# Altium schematic symbol library MyAltiumLibrary.SchLib: 375 symbols (part 2 of 2)
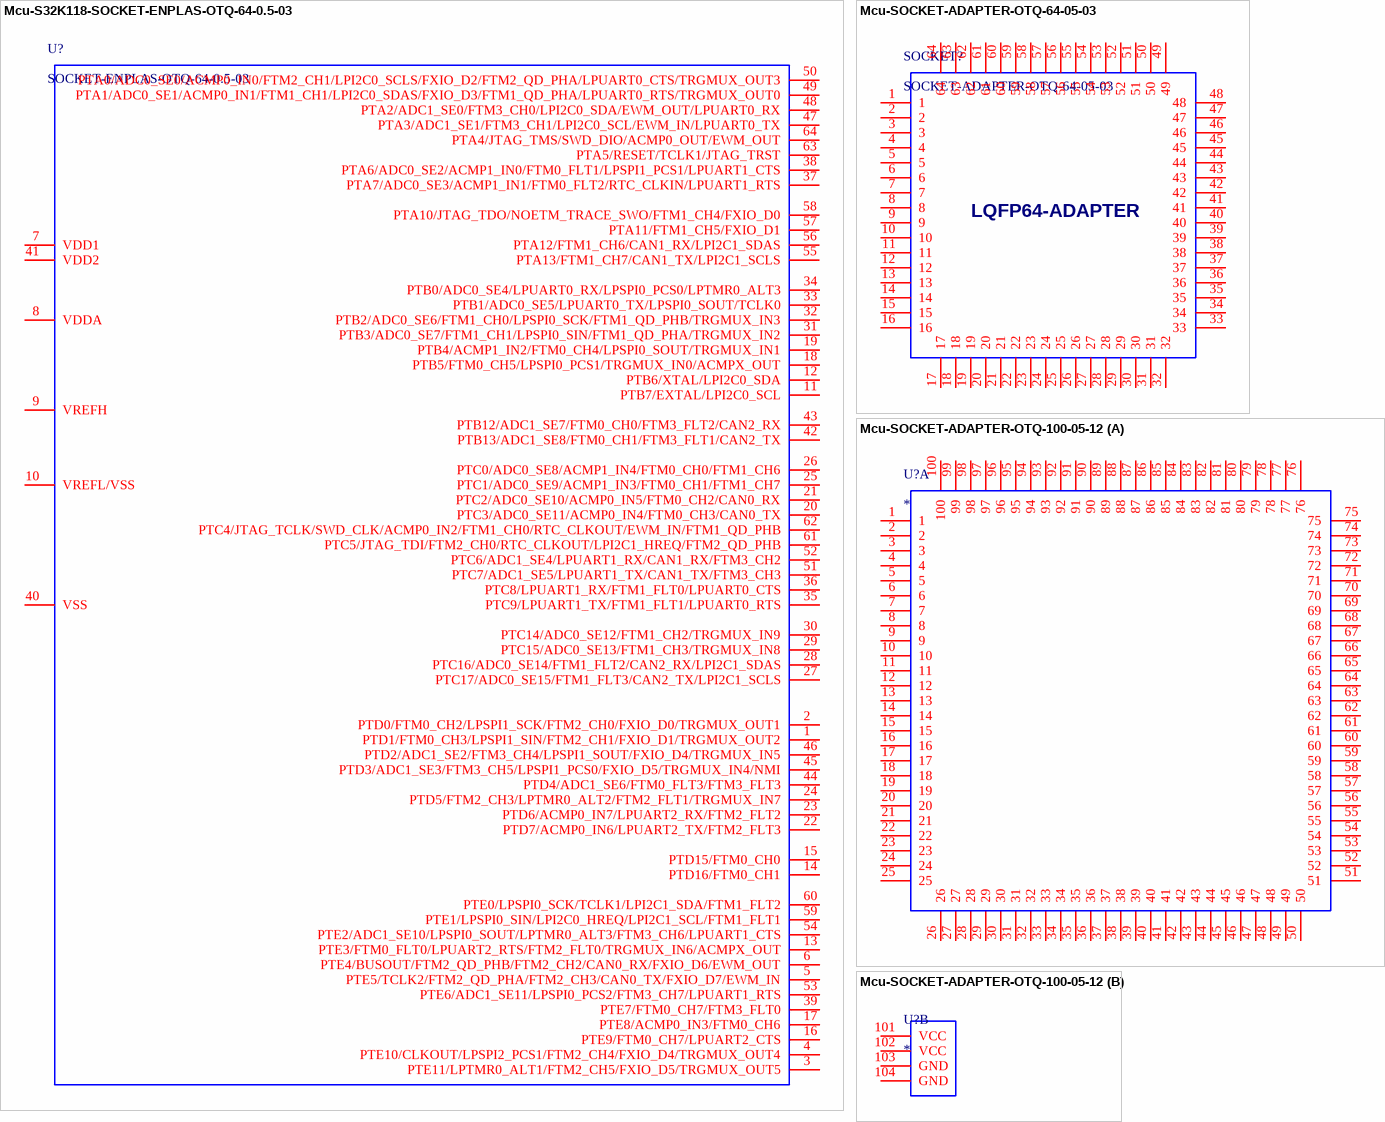
[diagram p18: symbols Mcu-S32K118-SOCKET-ENPLAS-OTQ-64-0.5-03 to Mcu-SOCKET-ADAPTER-OTQ-100-05-12]

## Mcu-S32K118-SOCKET-ENPLAS-OTQ-64-0.5-03
designator U?, comment SOCKET-ENPLAS-OTQ-64-0.5-03
footprint SOCKET-ADAPTER-OTQ-64-05-03
pins: 1 PTD1/FTM0_CH3/LPSPI1_SIN/FTM2_CH1/FXIO_D1/TRGMUX_OUT2, 2 PTD0/FTM0_CH2/LPSPI1_SCK/FTM2_CH0/FXIO_D0/TRGMUX_OUT1, 3 PTE11/LPTMR0_ALT1/FTM2_CH5/FXIO_D5/TRGMUX_OUT5, 4 PTE10/CLKOUT/LPSPI2_PCS1/FTM2_CH4/FXIO_D4/TRGMUX_OUT4, 5 PTE5/TCLK2/FTM2_QD_PHA/FTM2_CH3/CAN0_TX/FXIO_D7/EWM_IN, 6 PTE4/BUSOUT/FTM2_QD_PHB/FTM2_CH2/CAN0_RX/FXIO_D6/EWM_OUT, 7 VDD1, 8 VDDA, 9 VREFH, 10 VREFL/VSS, 11 PTB7/EXTAL/LPI2C0_SCL, 12 PTB6/XTAL/LPI2C0_SDA, 13 PTE3/FTM0_FLT0/LPUART2_RTS/FTM2_FLT0/TRGMUX_IN6/ACMPX_OUT, 14 PTD16/FTM0_CH1, 15 PTD15/FTM0_CH0, 16 PTE9/FTM0_CH7/LPUART2_CTS, 17 PTE8/ACMP0_IN3/FTM0_CH6, 18 PTB5/FTM0_CH5/LPSPI0_PCS1/TRGMUX_IN0/ACMPX_OUT, 19 PTB4/ACMP1_IN2/FTM0_CH4/LPSPI0_SOUT/TRGMUX_IN1, 20 PTC3/ADC0_SE11/ACMP0_IN4/FTM0_CH3/CAN0_TX, 21 PTC2/ADC0_SE10/ACMP0_IN5/FTM0_CH2/CAN0_RX, 22 PTD7/ACMP0_IN6/LPUART2_TX/FTM2_FLT3, 23 PTD6/ACMP0_IN7/LPUART2_RX/FTM2_FLT2, 24 PTD5/FTM2_CH3/LPTMR0_ALT2/FTM2_FLT1/TRGMUX_IN7, 25 PTC1/ADC0_SE9/ACMP1_IN3/FTM0_CH1/FTM1_CH7, 26 PTC0/ADC0_SE8/ACMP1_IN4/FTM0_CH0/FTM1_CH6, 27 PTC17/ADC0_SE15/FTM1_FLT3/CAN2_TX/LPI2C1_SCLS, 28 PTC16/ADC0_SE14/FTM1_FLT2/CAN2_RX/LPI2C1_SDAS, 29 PTC15/ADC0_SE13/FTM1_CH3/TRGMUX_IN8, 30 PTC14/ADC0_SE12/FTM1_CH2/TRGMUX_IN9, 31 PTB3/ADC0_SE7/FTM1_CH1/LPSPI0_SIN/FTM1_QD_PHA/TRGMUX_IN2, 32 PTB2/ADC0_SE6/FTM1_CH0/LPSPI0_SCK/FTM1_QD_PHB/TRGMUX_IN3, 33 PTB1/ADC0_SE5/LPUART0_TX/LPSPI0_SOUT/TCLK0, 34 PTB0/ADC0_SE4/LPUART0_RX/LPSPI0_PCS0/LPTMR0_ALT3, 35 PTC9/LPUART1_TX/FTM1_FLT1/LPUART0_RTS, 36 PTC8/LPUART1_RX/FTM1_FLT0/LPUART0_CTS, 37 PTA7/ADC0_SE3/ACMP1_IN1/FTM0_FLT2/RTC_CLKIN/LPUART1_RTS, 38 PTA6/ADC0_SE2/ACMP1_IN0/FTM0_FLT1/LPSPI1_PCS1/LPUART1_CTS, 39 PTE7/FTM0_CH7/FTM3_FLT0, 40 VSS, 41 VDD2, 42 PTB13/ADC1_SE8/FTM0_CH1/FTM3_FLT1/CAN2_TX, 43 PTB12/ADC1_SE7/FTM0_CH0/FTM3_FLT2/CAN2_RX, 44 PTD4/ADC1_SE6/FTM0_FLT3/FTM3_FLT3, 45 PTD3/ADC1_SE3/FTM3_CH5/LPSPI1_PCS0/FXIO_D5/TRGMUX_IN4/NMI, 46 PTD2/ADC1_SE2/FTM3_CH4/LPSPI1_SOUT/FXIO_D4/TRGMUX_IN5, 47 PTA3/ADC1_SE1/FTM3_CH1/LPI2C0_SCL/EWM_IN/LPUART0_TX, 48 PTA2/ADC1_SE0/FTM3_CH0/LPI2C0_SDA/EWM_OUT/LPUART0_RX, 49 PTA1/ADC0_SE1/ACMP0_IN1/FTM1_CH1/LPI2C0_SDAS/FXIO_D3/FTM1_QD_PHA/LPUART0_RTS/TRGMUX_OUT0, 50 PTA0/ADC0_SE0/ACMP0_IN0/FTM2_CH1/LPI2C0_SCLS/FXIO_D2/FTM2_QD_PHA/LPUART0_CTS/TRGMUX_OUT3, 51 PTC7/ADC1_SE5/LPUART1_TX/CAN1_TX/FTM3_CH3, 52 PTC6/ADC1_SE4/LPUART1_RX/CAN1_RX/FTM3_CH2, 53 PTE6/ADC1_SE11/LPSPI0_PCS2/FTM3_CH7/LPUART1_RTS, 54 PTE2/ADC1_SE10/LPSPI0_SOUT/LPTMR0_ALT3/FTM3_CH6/LPUART1_CTS, 55 PTA13/FTM1_CH7/CAN1_TX/LPI2C1_SCLS, 56 PTA12/FTM1_CH6/CAN1_RX/LPI2C1_SDAS, 57 PTA11/FTM1_CH5/FXIO_D1, 58 PTA10/JTAG_TDO/NOETM_TRACE_SWO/FTM1_CH4/FXIO_D0, 59 PTE1/LPSPI0_SIN/LPI2C0_HREQ/LPI2C1_SCL/FTM1_FLT1, 60 PTE0/LPSPI0_SCK/TCLK1/LPI2C1_SDA/FTM1_FLT2, 61 PTC5/JTAG_TDI/FTM2_CH0/RTC_CLKOUT/LPI2C1_HREQ/FTM2_QD_PHB, 62 PTC4/JTAG_TCLK/SWD_CLK/ACMP0_IN2/FTM1_CH0/RTC_CLKOUT/EWM_IN/FTM1_QD_PHB, 63 PTA5/RESET/TCLK1/JTAG_TRST, 64 PTA4/JTAG_TMS/SWD_DIO/ACMP0_OUT/EWM_OUT

## Mcu-SOCKET-ADAPTER-OTQ-64-05-03
designator SOCKET?, comment SOCKET-ADAPTER-OTQ-64-05-03
footprint SOCKET-ADAPTER-OTQ-64-05-03
pins: 1, 2, 3, 4, 5, 6, 7, 8, 9, 10, 11, 12, 13, 14, 15, 16, 17, 18, 19, 20, 21, 22, 23, 24, 25, 26, 27, 28, 29, 30, 31, 32, 33, 34, 35, 36, 37, 38, 39, 40, 41, 42, 43, 44, 45, 46, 47, 48, 49, 50, 51, 52, 53, 54, 55, 56, 57, 58, 59, 60, 61, 62, 63, 64
text: LQFP64-ADAPTER

## Mcu-SOCKET-ADAPTER-OTQ-100-05-12
designator U?
footprint SOCKET-ADAPTER-OTQ-100-05-12
part A pins: 1, 2, 3, 4, 5, 6, 7, 8, 9, 10, 11, 12, 13, 14, 15, 16, 17, 18, 19, 20, 21, 22, 23, 24, 25, 26, 27, 28, 29, 30, 31, 32, 33, 34, 35, 36, 37, 38, 39, 40, 41, 42, 43, 44, 45, 46, 47, 48, 49, 50, 51, 52, 53, 54, 55, 56, 57, 58, 59, 60, 61, 62, 63, 64, 65, 66, 67, 68, 69, 70, 71, 72, 73, 74, 75, 76, 77, 78, 79, 80, 81, 82, 83, 84, 85, 86, 87, 88, 89, 90, 91, 92, 93, 94, 95, 96, 97, 98, 99, 100
part B pins: 101 VCC, 102 VCC, 103 GND, 104 GND

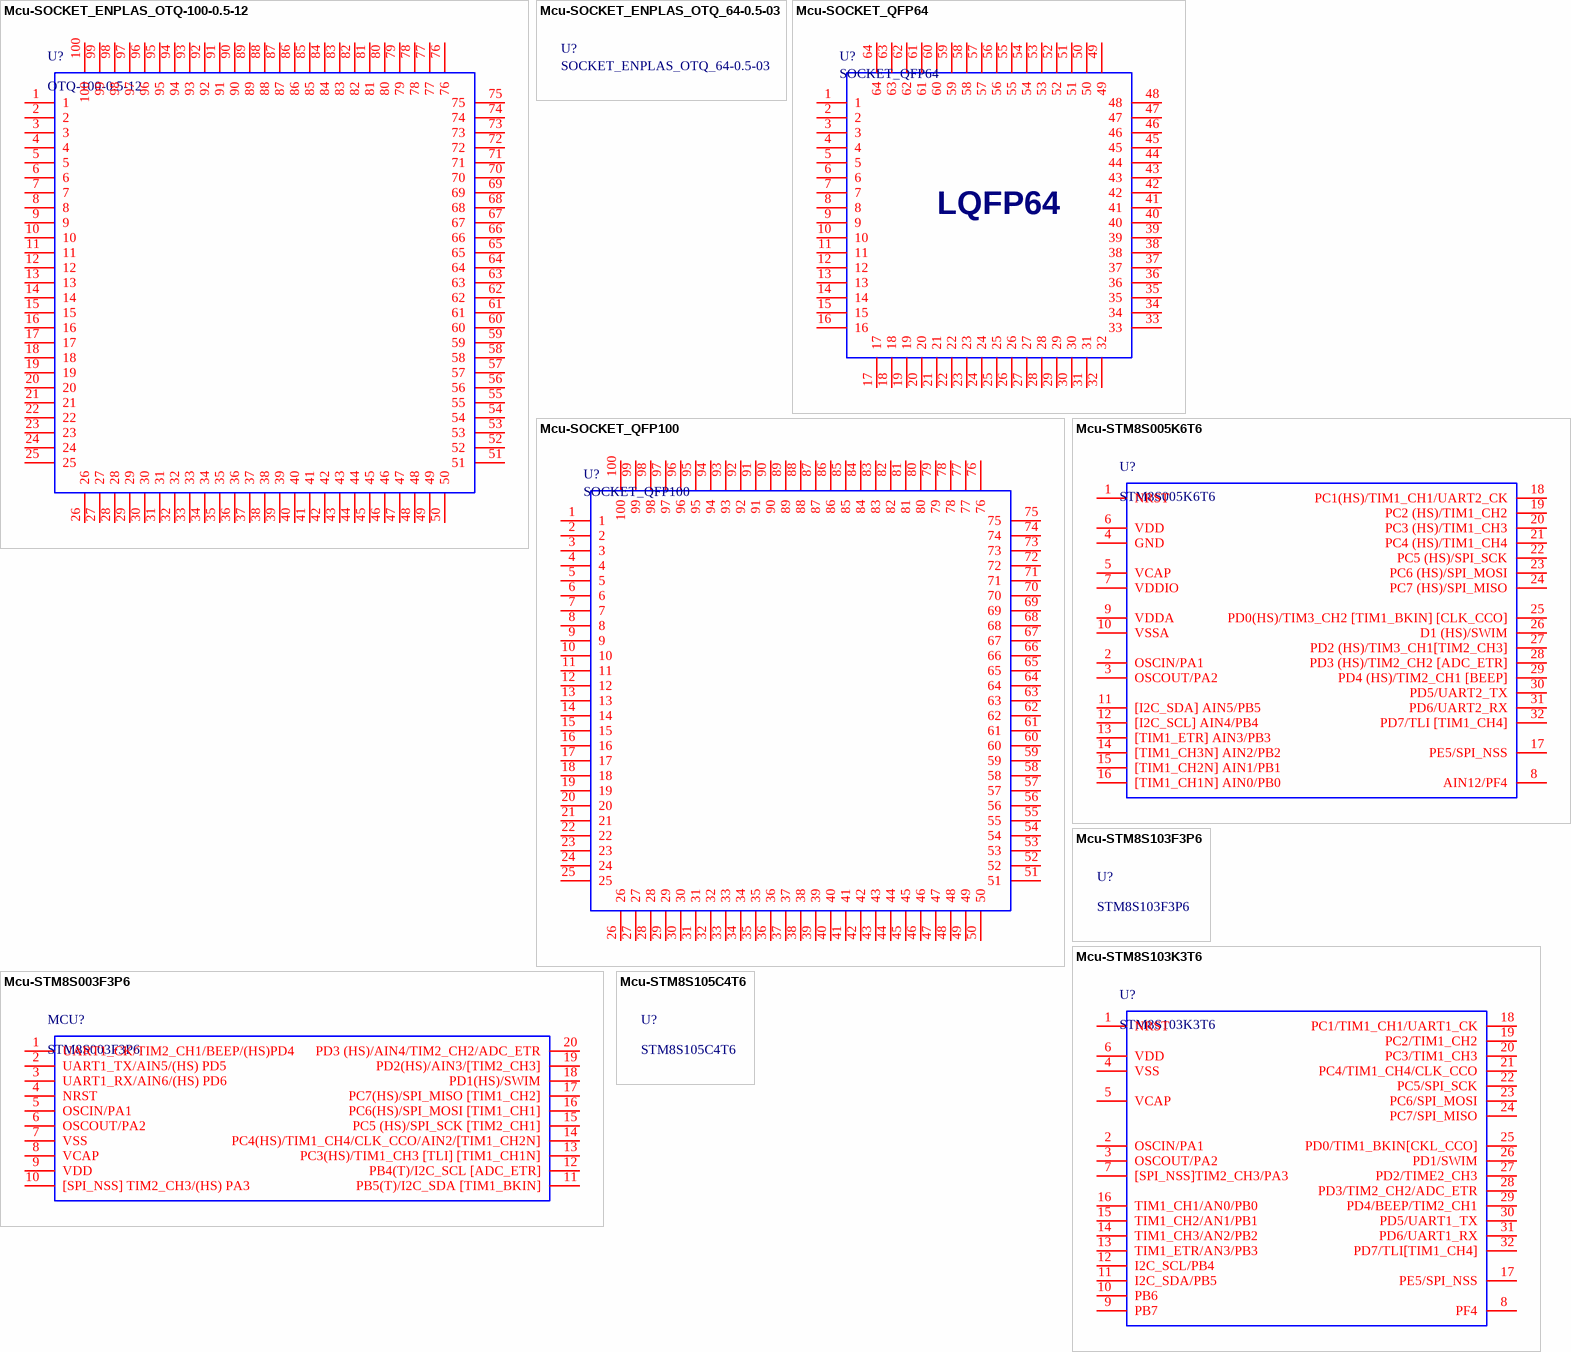
[diagram p10: symbols Mcu-SOCKET_ENPLAS_OTQ-100-0.5-12 to Mcu-STM8S105C4T6]

## Mcu-SOCKET_ENPLAS_OTQ-100-0.5-12
designator U?, comment OTQ-100-0.5-12
footprint SOCKET_ENPLAS_OTQ-100-0.5-12
pins: 1, 2, 3, 4, 5, 6, 7, 8, 9, 10, 11, 12, 13, 14, 15, 16, 17, 18, 19, 20, 21, 22, 23, 24, 25, 26, 27, 28, 29, 30, 31, 32, 33, 34, 35, 36, 37, 38, 39, 40, 41, 42, 43, 44, 45, 46, 47, 48, 49, 50, 51, 52, 53, 54, 55, 56, 57, 58, 59, 60, 61, 62, 63, 64, 65, 66, 67, 68, 69, 70, 71, 72, 73, 74, 75, 76, 77, 78, 79, 80, 81, 82, 83, 84, 85, 86, 87, 88, 89, 90, 91, 92, 93, 94, 95, 96, 97, 98, 99, 100

## Mcu-SOCKET_ENPLAS_OTQ_64-0.5-03
designator U?, comment SOCKET_ENPLAS_OTQ_64-0.5-03
footprint SOCKET_ENPLAS_OTQ_64-0.5-03

## Mcu-SOCKET_QFP64
designator U?, comment SOCKET_QFP64
footprint SOCKET_QFP64
pins: 1, 2, 3, 4, 5, 6, 7, 8, 9, 10, 11, 12, 13, 14, 15, 16, 17, 18, 19, 20, 21, 22, 23, 24, 25, 26, 27, 28, 29, 30, 31, 32, 33, 34, 35, 36, 37, 38, 39, 40, 41, 42, 43, 44, 45, 46, 47, 48, 49, 50, 51, 52, 53, 54, 55, 56, 57, 58, 59, 60, 61, 62, 63, 64
text: LQFP64

## Mcu-SOCKET_QFP100
designator U?, comment SOCKET_QFP100
footprint SOCKET_QFP100
pins: 1, 2, 3, 4, 5, 6, 7, 8, 9, 10, 11, 12, 13, 14, 15, 16, 17, 18, 19, 20, 21, 22, 23, 24, 25, 26, 27, 28, 29, 30, 31, 32, 33, 34, 35, 36, 37, 38, 39, 40, 41, 42, 43, 44, 45, 46, 47, 48, 49, 50, 51, 52, 53, 54, 55, 56, 57, 58, 59, 60, 61, 62, 63, 64, 65, 66, 67, 68, 69, 70, 71, 72, 73, 74, 75, 76, 77, 78, 79, 80, 81, 82, 83, 84, 85, 86, 87, 88, 89, 90, 91, 92, 93, 94, 95, 96, 97, 98, 99, 100

## Mcu-STM8S003F3P6
designator MCU?, comment STM8S003F3P6
footprint TSSOP20_0.65_4.4
pins: 1 UART1_CK/TIM2_CH1/BEEP/(HS)PD4, 2 UART1_TX/AIN5/(HS) PD5, 3 UART1_RX/AIN6/(HS) PD6, 4 NRST, 5 OSCIN/PA1, 6 OSCOUT/PA2, 7 VSS, 8 VCAP, 9 VDD, 10 [SPI_NSS] TIM2_CH3/(HS) PA3, 11 PB5(T)/I2C_SDA [TIM1_BKIN], 12 PB4(T)/I2C_SCL [ADC_ETR], 13 PC3(HS)/TIM1_CH3 [TLI] [TIM1_CH1N], 14 PC4(HS)/TIM1_CH4/CLK_CCO/AIN2/[TIM1_CH2N], 15 PC5 (HS)/SPI_SCK [TIM2_CH1], 16 PC6(HS)/SPI_MOSI [TIM1_CH1], 17 PC7(HS)/SPI_MISO [TIM1_CH2], 18 PD1(HS)/SWIM, 19 PD2(HS)/AIN3/[TIM2_CH3], 20 PD3 (HS)/AIN4/TIM2_CH2/ADC_ETR

## Mcu-STM8S005K6T6
designator U?, comment STM8S005K6T6
Ram: 2Kb; CPU: 8bit; Flash: 32Kb
footprint TQFP32_0.8_07
pins: 1 NRST, 2 OSCIN/PA1, 3 OSCOUT/PA2, 4 GND, 5 VCAP, 6 VDD, 7 VDDIO, 8 AIN12/PF4, 9 VDDA, 10 VSSA, 11 [I2C_SDA] AIN5/PB5, 12 [I2C_SCL] AIN4/PB4, 13 [TIM1_ETR] AIN3/PB3, 14 [TIM1_CH3N] AIN2/PB2, 15 [TIM1_CH2N] AIN1/PB1, 16 [TIM1_CH1N] AIN0/PB0, 17 PE5/SPI_NSS, 18 PC1(HS)/TIM1_CH1/UART2_CK, 19 PC2 (HS)/TIM1_CH2, 20 PC3 (HS)/TIM1_CH3, 21 PC4 (HS)/TIM1_CH4, 22 PC5 (HS)/SPI_SCK, 23 PC6 (HS)/SPI_MOSI, 24 PC7 (HS)/SPI_MISO, 25 PD0(HS)/TIM3_CH2 [TIM1_BKIN] [CLK_CCO], 26 D1 (HS)/SWIM, 27 PD2 (HS)/TIM3_CH1[TIM2_CH3], 28 PD3 (HS)/TIM2_CH2 [ADC_ETR], 29 PD4 (HS)/TIM2_CH1 [BEEP], 30 PD5/UART2_TX, 31 PD6/UART2_RX, 32 PD7/TLI [TIM1_CH4]

## Mcu-STM8S103F3P6
designator U?, comment STM8S103F3P6
footprint TSSOP20_0.65_4.4

## Mcu-STM8S103K3T6
designator U?, comment STM8S103K3T6
footprint LQFP032_FPT-32P-M21
pins: 1 NRST, 2 OSCIN/PA1, 3 OSCOUT/PA2, 4 VSS, 5 VCAP, 6 VDD, 7 [SPI_NSS]TIM2_CH3/PA3, 8 PF4, 9 PB7, 10 PB6, 11 I2C_SDA/PB5, 12 I2C_SCL/PB4, 13 TIM1_ETR/AN3/PB3, 14 TIM1_CH3/AN2/PB2, 15 TIM1_CH2/AN1/PB1, 16 TIM1_CH1/AN0/PB0, 17 PE5/SPI_NSS, 18 PC1/TIM1_CH1/UART1_CK, 19 PC2/TIM1_CH2, 20 PC3/TIM1_CH3, 21 PC4/TIM1_CH4/CLK_CCO, 22 PC5/SPI_SCK, 23 PC6/SPI_MOSI, 24 PC7/SPI_MISO, 25 PD0/TIM1_BKIN[CKL_CCO], 26 PD1/SWIM, 27 PD2/TIME2_CH3, 28 PD3/TIM2_CH2/ADC_ETR, 29 PD4/BEEP/TIM2_CH1, 30 PD5/UART1_TX, 31 PD6/UART1_RX, 32 PD7/TLI[TIM1_CH4]

## Mcu-STM8S105C4T6
designator U?, comment STM8S105C4T6
footprint LQFP048_FPT-48P-M05

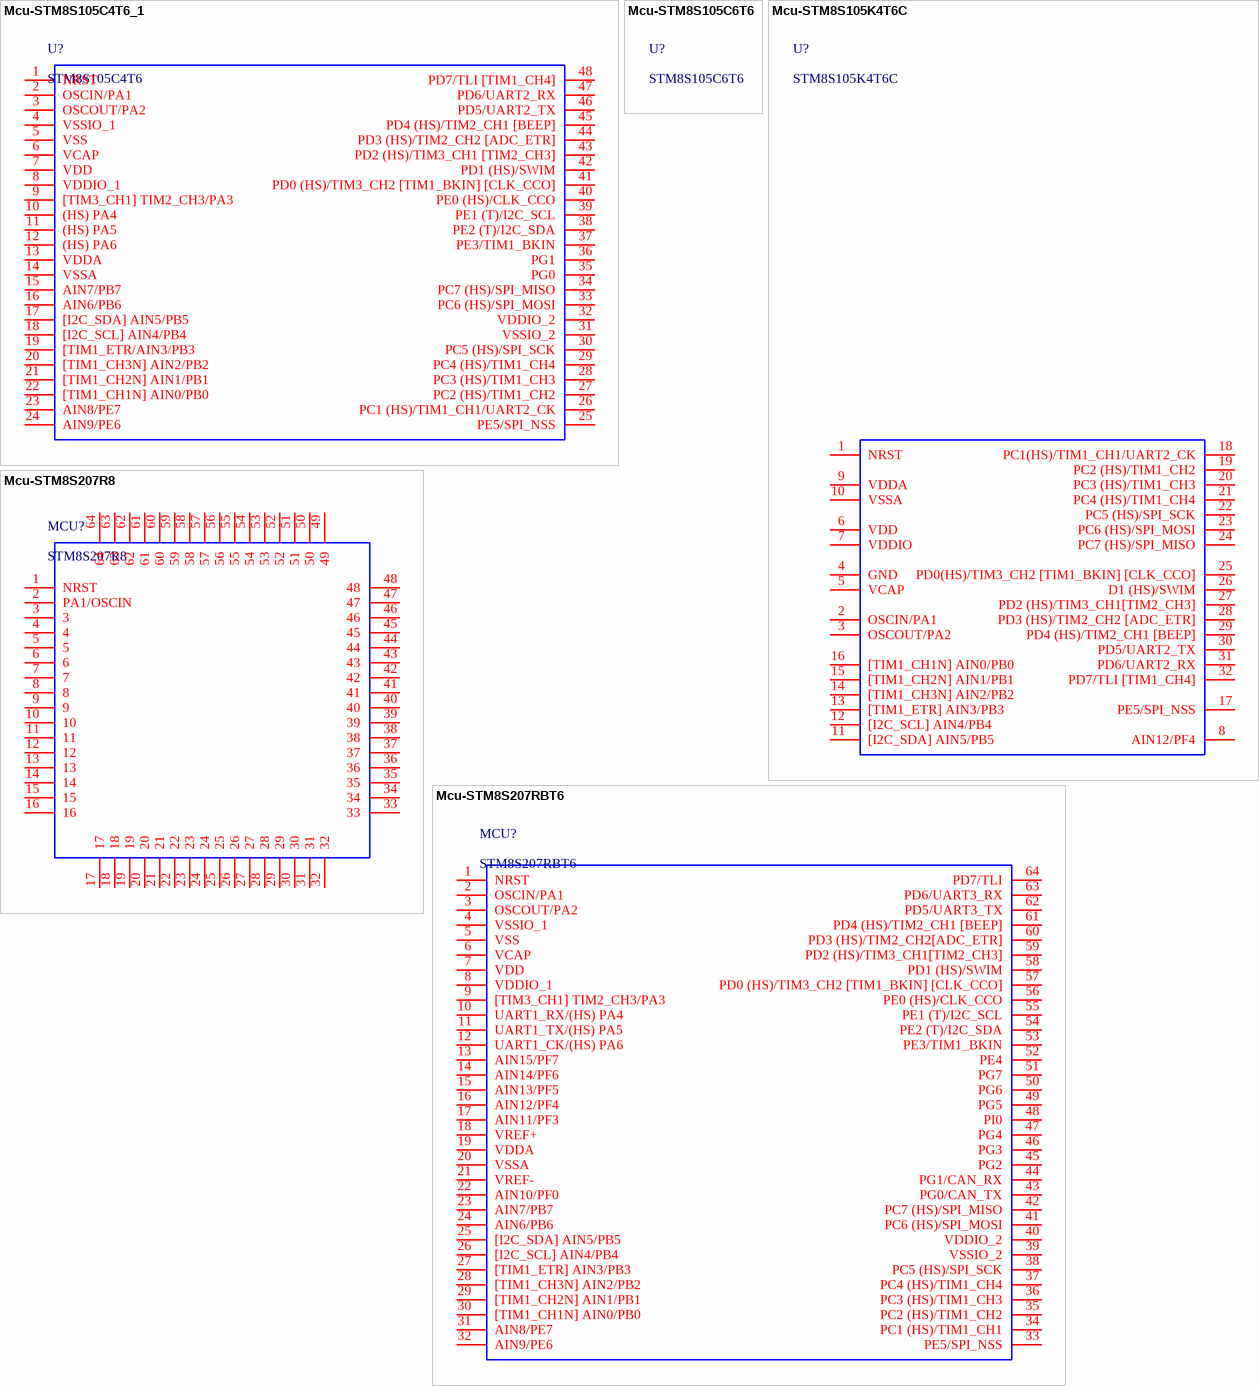
[diagram p11: symbols Mcu-STM8S105C4T6_1 to Mcu-STM8S207RBT6]

## Mcu-STM8S105C4T6_1
designator U?, comment STM8S105C4T6
footprint LQFP_48
footprint LQFP_48_L
footprint LQFP_48_M
pins: 1 NRST, 2 OSCIN/PA1, 3 OSCOUT/PA2, 4 VSSIO_1, 5 VSS, 6 VCAP, 7 VDD, 8 VDDIO_1, 9 [TIM3_CH1] TIM2_CH3/PA3, 10 (HS) PA4, 11 (HS) PA5, 12 (HS) PA6, 13 VDDA, 14 VSSA, 15 AIN7/PB7, 16 AIN6/PB6, 17 [I2C_SDA] AIN5/PB5, 18 [I2C_SCL] AIN4/PB4, 19 [TIM1_ETR/AIN3/PB3, 20 [TIM1_CH3N] AIN2/PB2, 21 [TIM1_CH2N] AIN1/PB1, 22 [TIM1_CH1N] AIN0/PB0, 23 AIN8/PE7, 24 AIN9/PE6, 25 PE5/SPI_NSS, 26 PC1 (HS)/TIM1_CH1/UART2_CK, 27 PC2 (HS)/TIM1_CH2, 28 PC3 (HS)/TIM1_CH3, 29 PC4 (HS)/TIM1_CH4, 30 PC5 (HS)/SPI_SCK, 31 VSSIO_2, 32 VDDIO_2, 33 PC6 (HS)/SPI_MOSI, 34 PC7 (HS)/SPI_MISO, 35 PG0, 36 PG1, 37 PE3/TIM1_BKIN, 38 PE2 (T)/I2C_SDA, 39 PE1 (T)/I2C_SCL, 40 PE0 (HS)/CLK_CCO, 41 PD0 (HS)/TIM3_CH2 [TIM1_BKIN] [CLK_CCO], 42 PD1 (HS)/SWIM, 43 PD2 (HS)/TIM3_CH1 [TIM2_CH3], 44 PD3 (HS)/TIM2_CH2 [ADC_ETR], 45 PD4 (HS)/TIM2_CH1 [BEEP], 46 PD5/UART2_TX, 47 PD6/UART2_RX, 48 PD7/TLI [TIM1_CH4]

## Mcu-STM8S105C6T6
designator U?, comment STM8S105C6T6
footprint LQFP048_FPT-48P-M05

## Mcu-STM8S105K4T6C
designator U?, comment STM8S105K4T6C
footprint LQFP032_FPT-32P-M21
pins: 1 NRST, 2 OSCIN/PA1, 3 OSCOUT/PA2, 4 GND, 5 VCAP, 6 VDD, 7 VDDIO, 8 AIN12/PF4, 9 VDDA, 10 VSSA, 11 [I2C_SDA] AIN5/PB5, 12 [I2C_SCL] AIN4/PB4, 13 [TIM1_ETR] AIN3/PB3, 14 [TIM1_CH3N] AIN2/PB2, 15 [TIM1_CH2N] AIN1/PB1, 16 [TIM1_CH1N] AIN0/PB0, 17 PE5/SPI_NSS, 18 PC1(HS)/TIM1_CH1/UART2_CK, 19 PC2 (HS)/TIM1_CH2, 20 PC3 (HS)/TIM1_CH3, 21 PC4 (HS)/TIM1_CH4, 22 PC5 (HS)/SPI_SCK, 23 PC6 (HS)/SPI_MOSI, 24 PC7 (HS)/SPI_MISO, 25 PD0(HS)/TIM3_CH2 [TIM1_BKIN] [CLK_CCO], 26 D1 (HS)/SWIM, 27 PD2 (HS)/TIM3_CH1[TIM2_CH3], 28 PD3 (HS)/TIM2_CH2 [ADC_ETR], 29 PD4 (HS)/TIM2_CH1 [BEEP], 30 PD5/UART2_TX, 31 PD6/UART2_RX, 32 PD7/TLI [TIM1_CH4]

## Mcu-STM8S207R8
designator MCU?, comment STM8S207R8
footprint SOCKET-ADAPTER-OTQ-64-05-03
footprint SOCKET_QFP64
pins: 1 NRST, 2 PA1/OSCIN, 3, 4, 5, 6, 7, 8, 9, 10, 11, 12, 13, 14, 15, 16, 17, 18, 19, 20, 21, 22, 23, 24, 25, 26, 27, 28, 29, 30, 31, 32, 33, 34, 35, 36, 37, 38, 39, 40, 41, 42, 43, 44, 45, 46, 47, 48, 49, 50, 51, 52, 53, 54, 55, 56, 57, 58, 59, 60, 61, 62, 63, 64

## Mcu-STM8S207RBT6
designator MCU?, comment STM8S207RBT6
footprint LQFP064_FPT-64P-M09
pins: 1 NRST, 2 OSCIN/PA1, 3 OSCOUT/PA2, 4 VSSIO_1, 5 VSS, 6 VCAP, 7 VDD, 8 VDDIO_1, 9 [TIM3_CH1] TIM2_CH3/PA3, 10 UART1_RX/(HS) PA4, 11 UART1_TX/(HS) PA5, 12 UART1_CK/(HS) PA6, 13 AIN15/PF7, 14 AIN14/PF6, 15 AIN13/PF5, 16 AIN12/PF4, 17 AIN11/PF3, 18 VREF+, 19 VDDA, 20 VSSA, 21 VREF-, 22 AIN10/PF0, 23 AIN7/PB7, 24 AIN6/PB6, 25 [I2C_SDA] AIN5/PB5, 26 [I2C_SCL] AIN4/PB4, 27 [TIM1_ETR] AIN3/PB3, 28 [TIM1_CH3N] AIN2/PB2, 29 [TIM1_CH2N] AIN1/PB1, 30 [TIM1_CH1N] AIN0/PB0, 31 AIN8/PE7, 32 AIN9/PE6, 33 PE5/SPI_NSS, 34 PC1 (HS)/TIM1_CH1, 35 PC2 (HS)/TIM1_CH2, 36 PC3 (HS)/TIM1_CH3, 37 PC4 (HS)/TIM1_CH4, 38 PC5 (HS)/SPI_SCK, 39 VSSIO_2, 40 VDDIO_2, 41 PC6 (HS)/SPI_MOSI, 42 PC7 (HS)/SPI_MISO, 43 PG0/CAN_TX, 44 PG1/CAN_RX, 45 PG2, 46 PG3, 47 PG4, 48 PI0, 49 PG5, 50 PG6, 51 PG7, 52 PE4, 53 PE3/TIM1_BKIN, 54 PE2 (T)/I2C_SDA, 55 PE1 (T)/I2C_SCL, 56 PE0 (HS)/CLK_CCO, 57 PD0 (HS)/TIM3_CH2 [TIM1_BKIN] [CLK_CCO], 58 PD1 (HS)/SWIM, 59 PD2 (HS)/TIM3_CH1[TIM2_CH3], 60 PD3 (HS)/TIM2_CH2[ADC_ETR], 61 PD4 (HS)/TIM2_CH1 [BEEP], 62 PD5/UART3_TX, 63 PD6/UART3_RX, 64 PD7/TLI

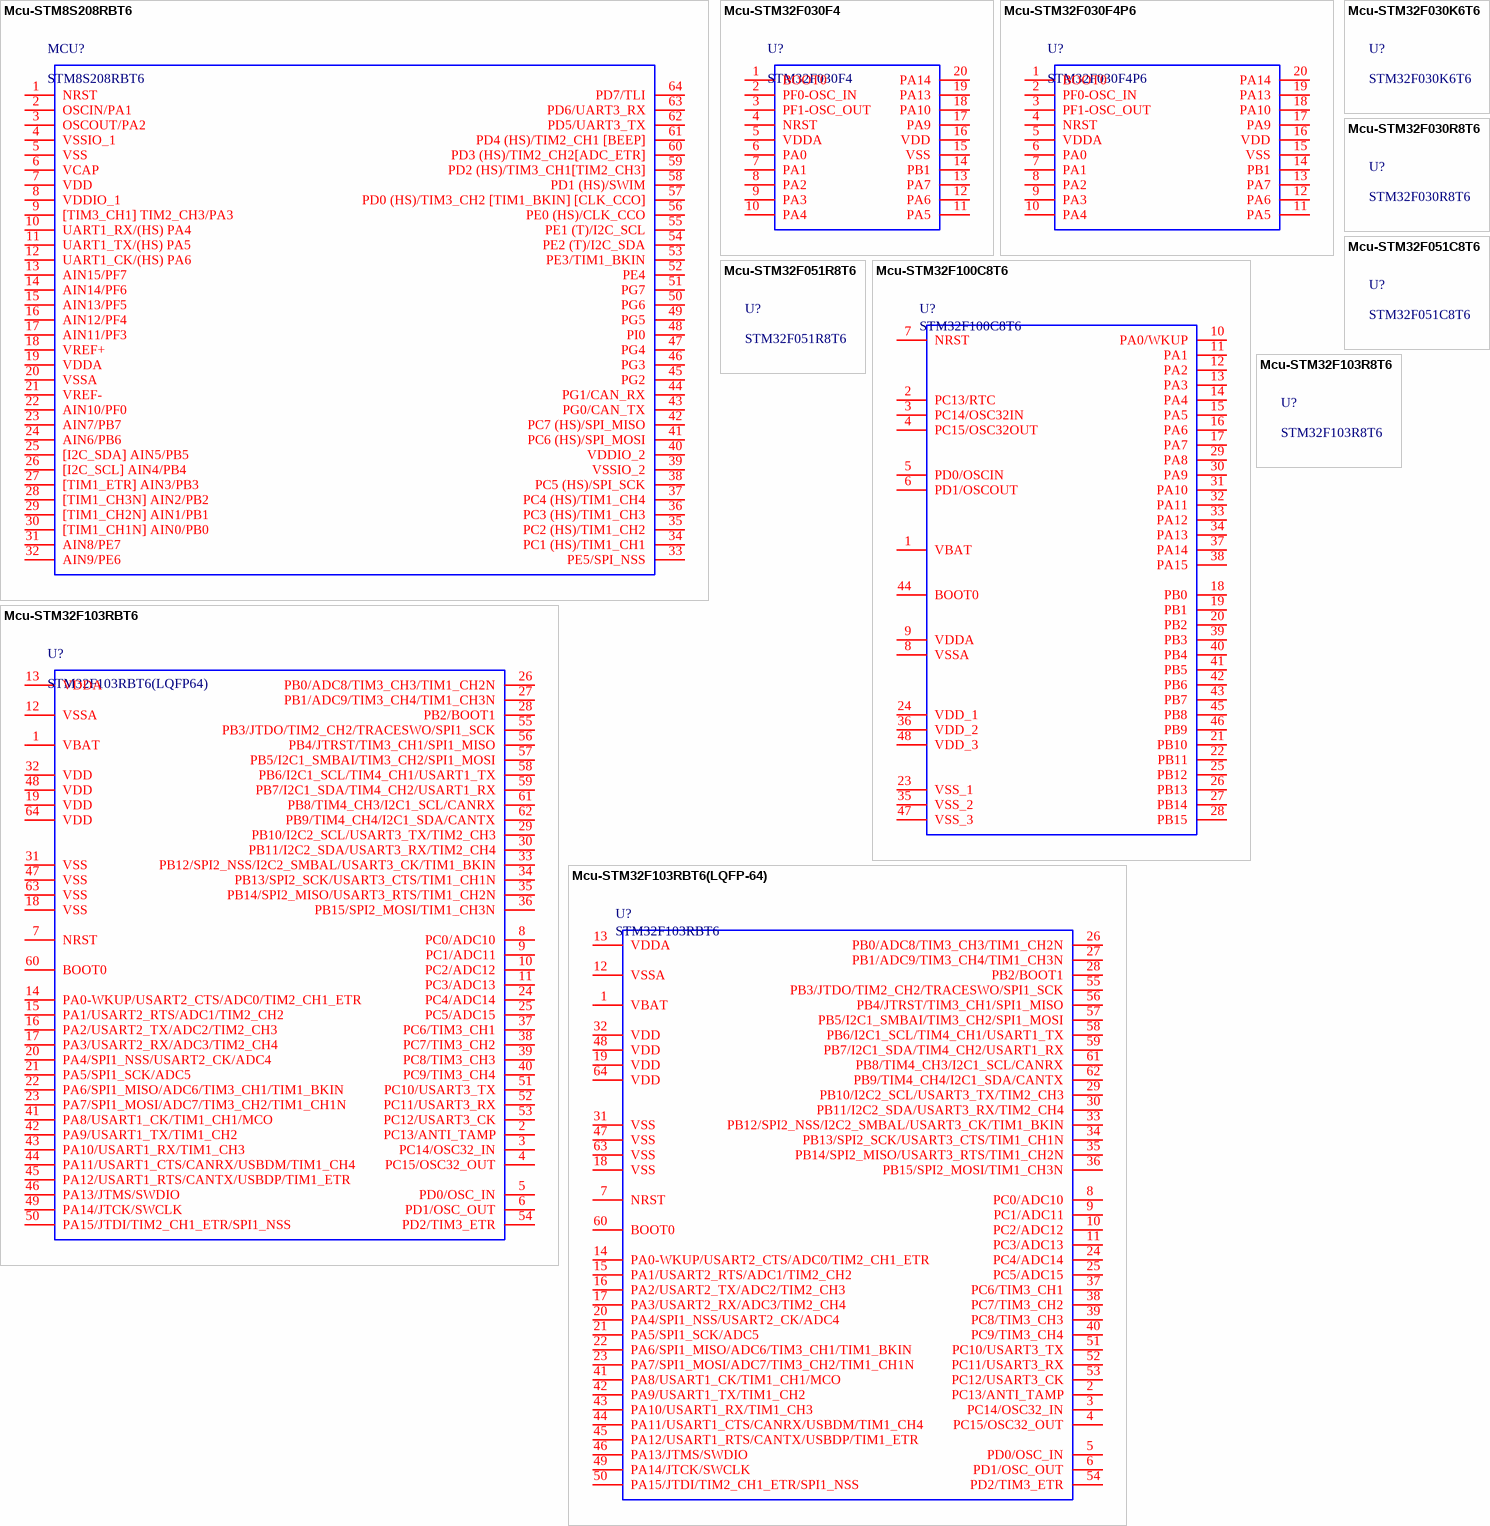
[diagram p12: symbols Mcu-STM8S208RBT6 to Mcu-STM32F103RBT6(LQFP-64)]

## Mcu-STM8S208RBT6
designator MCU?, comment STM8S208RBT6
footprint LQFP_64_M
pins: 1 NRST, 2 OSCIN/PA1, 3 OSCOUT/PA2, 4 VSSIO_1, 5 VSS, 6 VCAP, 7 VDD, 8 VDDIO_1, 9 [TIM3_CH1] TIM2_CH3/PA3, 10 UART1_RX/(HS) PA4, 11 UART1_TX/(HS) PA5, 12 UART1_CK/(HS) PA6, 13 AIN15/PF7, 14 AIN14/PF6, 15 AIN13/PF5, 16 AIN12/PF4, 17 AIN11/PF3, 18 VREF+, 19 VDDA, 20 VSSA, 21 VREF-, 22 AIN10/PF0, 23 AIN7/PB7, 24 AIN6/PB6, 25 [I2C_SDA] AIN5/PB5, 26 [I2C_SCL] AIN4/PB4, 27 [TIM1_ETR] AIN3/PB3, 28 [TIM1_CH3N] AIN2/PB2, 29 [TIM1_CH2N] AIN1/PB1, 30 [TIM1_CH1N] AIN0/PB0, 31 AIN8/PE7, 32 AIN9/PE6, 33 PE5/SPI_NSS, 34 PC1 (HS)/TIM1_CH1, 35 PC2 (HS)/TIM1_CH2, 36 PC3 (HS)/TIM1_CH3, 37 PC4 (HS)/TIM1_CH4, 38 PC5 (HS)/SPI_SCK, 39 VSSIO_2, 40 VDDIO_2, 41 PC6 (HS)/SPI_MOSI, 42 PC7 (HS)/SPI_MISO, 43 PG0/CAN_TX, 44 PG1/CAN_RX, 45 PG2, 46 PG3, 47 PG4, 48 PI0, 49 PG5, 50 PG6, 51 PG7, 52 PE4, 53 PE3/TIM1_BKIN, 54 PE2 (T)/I2C_SDA, 55 PE1 (T)/I2C_SCL, 56 PE0 (HS)/CLK_CCO, 57 PD0 (HS)/TIM3_CH2 [TIM1_BKIN] [CLK_CCO], 58 PD1 (HS)/SWIM, 59 PD2 (HS)/TIM3_CH1[TIM2_CH3], 60 PD3 (HS)/TIM2_CH2[ADC_ETR], 61 PD4 (HS)/TIM2_CH1 [BEEP], 62 PD5/UART3_TX, 63 PD6/UART3_RX, 64 PD7/TLI

## Mcu-STM32F030F4
designator U?, comment STM32F030F4
4Kbyte RAM and 16Kb FLASH
footprint TSSOP20_0.65_4.4
pins: 1 BOOT0, 2 PF0-OSC_IN, 3 PF1-OSC_OUT, 4 NRST, 5 VDDA, 6 PA0, 7 PA1, 8 PA2, 9 PA3, 10 PA4, 11 PA5, 12 PA6, 13 PA7, 14 PB1, 15 VSS, 16 VDD, 17 PA9, 18 PA10, 19 PA13, 20 PA14

## Mcu-STM32F030F4P6
designator U?, comment STM32F030F4P6
footprint TSSOP20_0.65_4.4
pins: 1 BOOT0, 2 PF0-OSC_IN, 3 PF1-OSC_OUT, 4 NRST, 5 VDDA, 6 PA0, 7 PA1, 8 PA2, 9 PA3, 10 PA4, 11 PA5, 12 PA6, 13 PA7, 14 PB1, 15 VSS, 16 VDD, 17 PA9, 18 PA10, 19 PA13, 20 PA14

## Mcu-STM32F030K6T6
designator U?, comment STM32F030K6T6
footprint LQFP032_FPT-32P-M21

## Mcu-STM32F030R8T6
designator U?, comment STM32F030R8T6
footprint LQFP064_FPT-64P-M03

## Mcu-STM32F051C8T6
designator U?, comment STM32F051C8T6
footprint LQFP064_FPT-64P-M03

## Mcu-STM32F051R8T6
designator U?, comment STM32F051R8T6
footprint LQFP064_FPT-64P-M03

## Mcu-STM32F100C8T6
designator U?, comment STM32F100C8T6
LQFP-48
footprint LQFP048_FPT-48P-M05
pins: 1 VBAT, 2 PC13/RTC, 3 PC14/OSC32IN, 4 PC15/OSC32OUT, 5 PD0/OSCIN, 6 PD1/OSCOUT, 7 NRST, 8 VSSA, 9 VDDA, 10 PA0/WKUP, 11 PA1, 12 PA2, 13 PA3, 14 PA4, 15 PA5, 16 PA6, 17 PA7, 18 PB0, 19 PB1, 20 PB2, 21 PB10, 22 PB11, 23 VSS_1, 24 VDD_1, 25 PB12, 26 PB13, 27 PB14, 28 PB15, 29 PA8, 30 PA9, 31 PA10, 32 PA11, 33 PA12, 34 PA13, 35 VSS_2, 36 VDD_2, 37 PA14, 38 PA15, 39 PB3, 40 PB4, 41 PB5, 42 PB6, 43 PB7, 44 BOOT0, 45 PB8, 46 PB9, 47 VSS_3, 48 VDD_3

## Mcu-STM32F103R8T6
designator U?, comment STM32F103R8T6
footprint LQFP064_FPT-64P-M03

## Mcu-STM32F103RBT6
designator U?, comment STM32F103RBT6(LQFP64)
LQFP64
footprint LQFP064_FPT-64P-M03
pins: 1 VBAT, 2 PC13/ANTI_TAMP, 3 PC14/OSC32_IN, 4 PC15/OSC32_OUT, 5 PD0/OSC_IN, 6 PD1/OSC_OUT, 7 NRST, 8 PC0/ADC10, 9 PC1/ADC11, 10 PC2/ADC12, 11 PC3/ADC13, 12 VSSA, 13 VDDA, 14 PA0-WKUP/USART2_CTS/ADC0/TIM2_CH1_ETR, 15 PA1/USART2_RTS/ADC1/TIM2_CH2, 16 PA2/USART2_TX/ADC2/TIM2_CH3, 17 PA3/USART2_RX/ADC3/TIM2_CH4, 18 VSS, 19 VDD, 20 PA4/SPI1_NSS/USART2_CK/ADC4, 21 PA5/SPI1_SCK/ADC5, 22 PA6/SPI1_MISO/ADC6/TIM3_CH1/TIM1_BKIN, 23 PA7/SPI1_MOSI/ADC7/TIM3_CH2/TIM1_CH1N, 24 PC4/ADC14, 25 PC5/ADC15, 26 PB0/ADC8/TIM3_CH3/TIM1_CH2N, 27 PB1/ADC9/TIM3_CH4/TIM1_CH3N, 28 PB2/BOOT1, 29 PB10/I2C2_SCL/USART3_TX/TIM2_CH3, 30 PB11/I2C2_SDA/USART3_RX/TIM2_CH4, 31 VSS, 32 VDD, 33 PB12/SPI2_NSS/I2C2_SMBAL/USART3_CK/TIM1_BKIN, 34 PB13/SPI2_SCK/USART3_CTS/TIM1_CH1N, 35 PB14/SPI2_MISO/USART3_RTS/TIM1_CH2N, 36 PB15/SPI2_MOSI/TIM1_CH3N, 37 PC6/TIM3_CH1, 38 PC7/TIM3_CH2, 39 PC8/TIM3_CH3, 40 PC9/TIM3_CH4, 41 PA8/USART1_CK/TIM1_CH1/MCO, 42 PA9/USART1_TX/TIM1_CH2, 43 PA10/USART1_RX/TIM1_CH3, 44 PA11/USART1_CTS/CANRX/USBDM/TIM1_CH4, 45 PA12/USART1_RTS/CANTX/USBDP/TIM1_ETR, 46 PA13/JTMS/SWDIO, 47 VSS, 48 VDD, 49 PA14/JTCK/SWCLK, 50 PA15/JTDI/TIM2_CH1_ETR/SPI1_NSS, 51 PC10/USART3_TX, 52 PC11/USART3_RX, 53 PC12/USART3_CK, 54 PD2/TIM3_ETR, 55 PB3/JTDO/TIM2_CH2/TRACESWO/SPI1_SCK, 56 PB4/JTRST/TIM3_CH1/SPI1_MISO, 57 PB5/I2C1_SMBAI/TIM3_CH2/SPI1_MOSI, 58 PB6/I2C1_SCL/TIM4_CH1/USART1_TX, 59 PB7/I2C1_SDA/TIM4_CH2/USART1_RX, 60 BOOT0, 61 PB8/TIM4_CH3/I2C1_SCL/CANRX, 62 PB9/TIM4_CH4/I2C1_SDA/CANTX, 63 VSS, 64 VDD

## Mcu-STM32F103RBT6(LQFP-64)
designator U?, comment STM32F103RBT6
footprint LQFP064_FPT-64P-M03
pins: 1 VBAT, 2 PC13/ANTI_TAMP, 3 PC14/OSC32_IN, 4 PC15/OSC32_OUT, 5 PD0/OSC_IN, 6 PD1/OSC_OUT, 7 NRST, 8 PC0/ADC10, 9 PC1/ADC11, 10 PC2/ADC12, 11 PC3/ADC13, 12 VSSA, 13 VDDA, 14 PA0-WKUP/USART2_CTS/ADC0/TIM2_CH1_ETR, 15 PA1/USART2_RTS/ADC1/TIM2_CH2, 16 PA2/USART2_TX/ADC2/TIM2_CH3, 17 PA3/USART2_RX/ADC3/TIM2_CH4, 18 VSS, 19 VDD, 20 PA4/SPI1_NSS/USART2_CK/ADC4, 21 PA5/SPI1_SCK/ADC5, 22 PA6/SPI1_MISO/ADC6/TIM3_CH1/TIM1_BKIN, 23 PA7/SPI1_MOSI/ADC7/TIM3_CH2/TIM1_CH1N, 24 PC4/ADC14, 25 PC5/ADC15, 26 PB0/ADC8/TIM3_CH3/TIM1_CH2N, 27 PB1/ADC9/TIM3_CH4/TIM1_CH3N, 28 PB2/BOOT1, 29 PB10/I2C2_SCL/USART3_TX/TIM2_CH3, 30 PB11/I2C2_SDA/USART3_RX/TIM2_CH4, 31 VSS, 32 VDD, 33 PB12/SPI2_NSS/I2C2_SMBAL/USART3_CK/TIM1_BKIN, 34 PB13/SPI2_SCK/USART3_CTS/TIM1_CH1N, 35 PB14/SPI2_MISO/USART3_RTS/TIM1_CH2N, 36 PB15/SPI2_MOSI/TIM1_CH3N, 37 PC6/TIM3_CH1, 38 PC7/TIM3_CH2, 39 PC8/TIM3_CH3, 40 PC9/TIM3_CH4, 41 PA8/USART1_CK/TIM1_CH1/MCO, 42 PA9/USART1_TX/TIM1_CH2, 43 PA10/USART1_RX/TIM1_CH3, 44 PA11/USART1_CTS/CANRX/USBDM/TIM1_CH4, 45 PA12/USART1_RTS/CANTX/USBDP/TIM1_ETR, 46 PA13/JTMS/SWDIO, 47 VSS, 48 VDD, 49 PA14/JTCK/SWCLK, 50 PA15/JTDI/TIM2_CH1_ETR/SPI1_NSS, 51 PC10/USART3_TX, 52 PC11/USART3_RX, 53 PC12/USART3_CK, 54 PD2/TIM3_ETR, 55 PB3/JTDO/TIM2_CH2/TRACESWO/SPI1_SCK, 56 PB4/JTRST/TIM3_CH1/SPI1_MISO, 57 PB5/I2C1_SMBAI/TIM3_CH2/SPI1_MOSI, 58 PB6/I2C1_SCL/TIM4_CH1/USART1_TX, 59 PB7/I2C1_SDA/TIM4_CH2/USART1_RX, 60 BOOT0, 61 PB8/TIM4_CH3/I2C1_SCL/CANRX, 62 PB9/TIM4_CH4/I2C1_SDA/CANTX, 63 VSS, 64 VDD

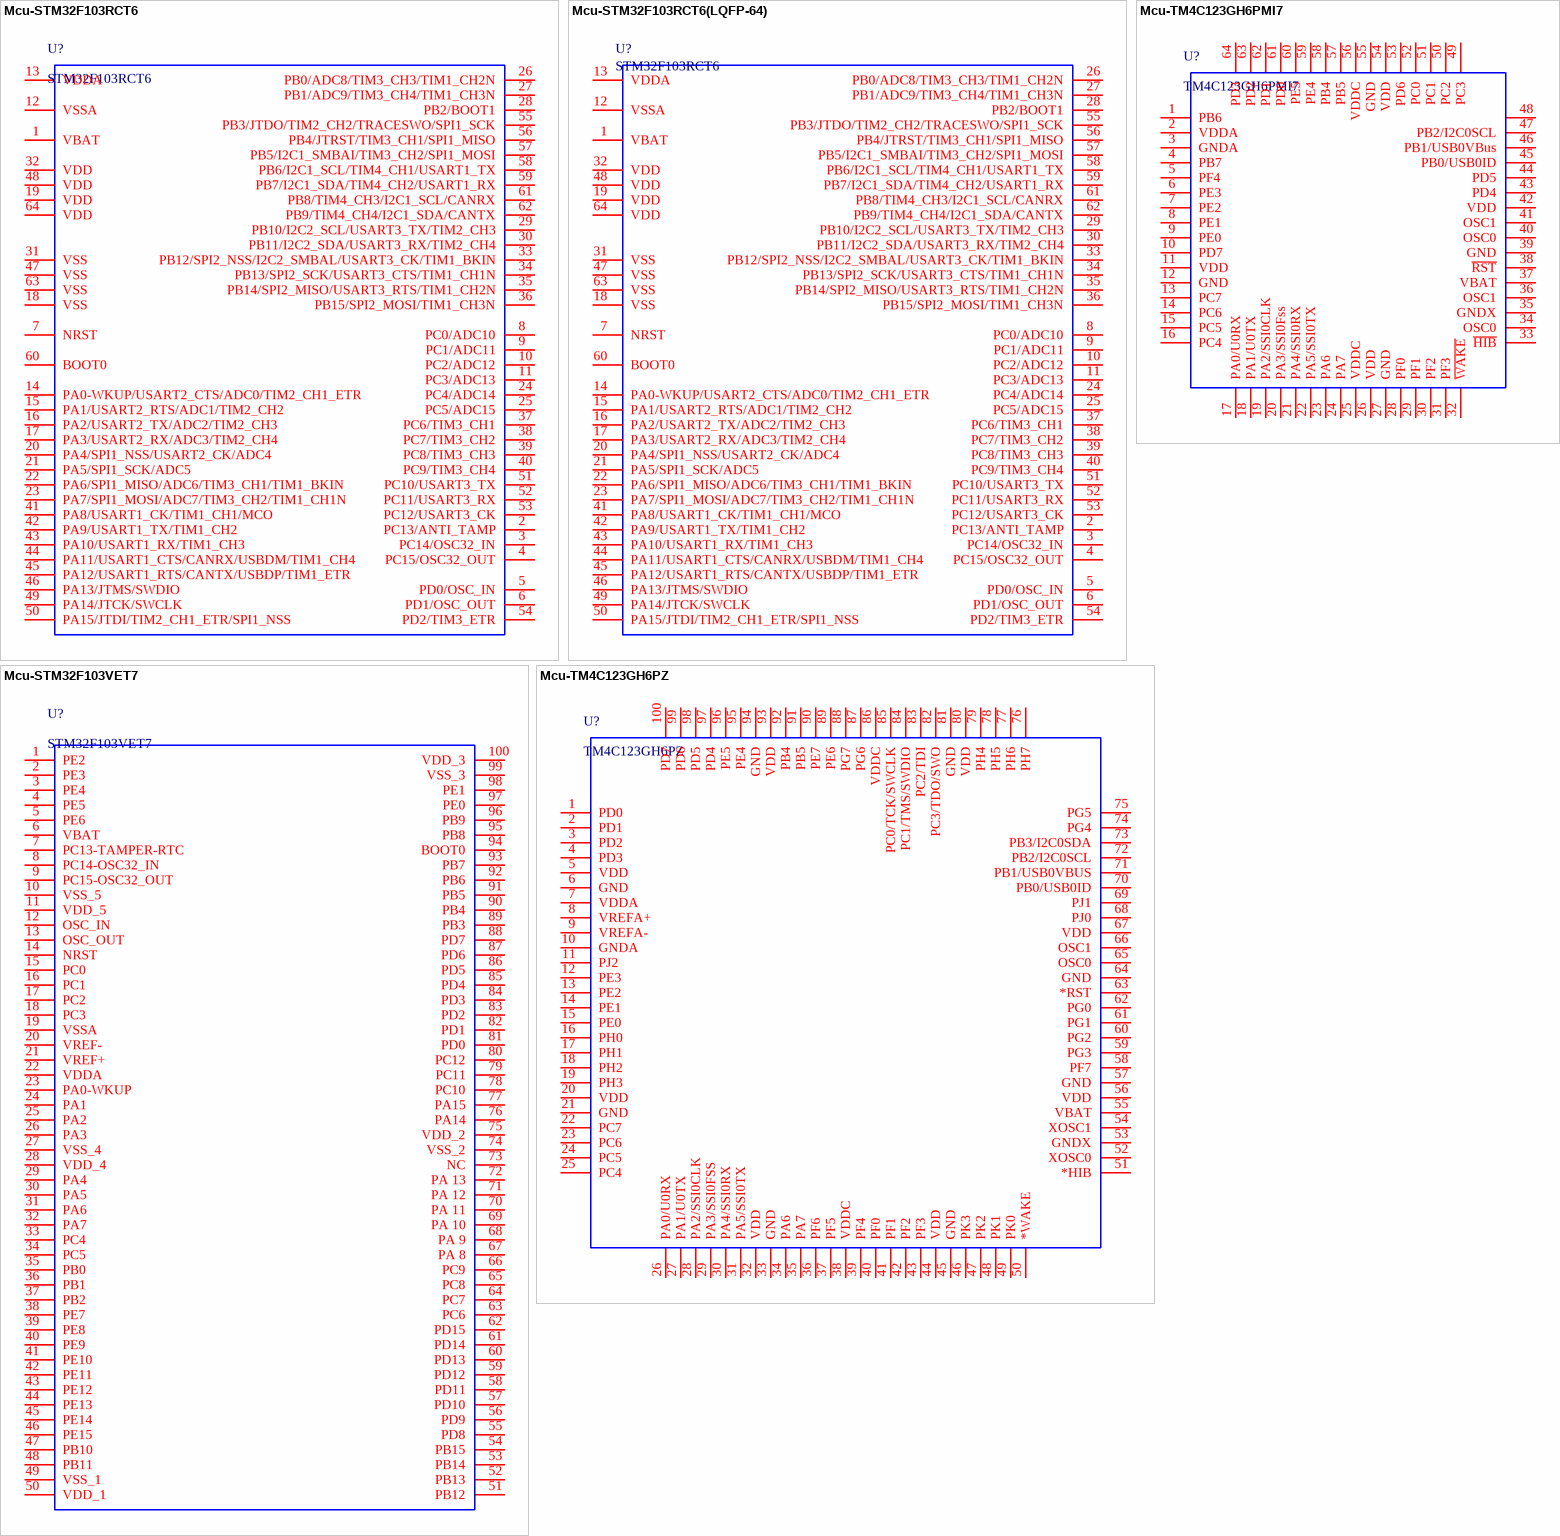
[diagram p13: symbols Mcu-STM32F103RCT6 to Mcu-TM4C123GH6PZ]

## Mcu-STM32F103RCT6
designator U?, comment STM32F103RCT6
LQFP64
footprint LQFP064_FPT-64P-M03
footprint SOCKET_QFP64
pins: 1 VBAT, 2 PC13/ANTI_TAMP, 3 PC14/OSC32_IN, 4 PC15/OSC32_OUT, 5 PD0/OSC_IN, 6 PD1/OSC_OUT, 7 NRST, 8 PC0/ADC10, 9 PC1/ADC11, 10 PC2/ADC12, 11 PC3/ADC13, 12 VSSA, 13 VDDA, 14 PA0-WKUP/USART2_CTS/ADC0/TIM2_CH1_ETR, 15 PA1/USART2_RTS/ADC1/TIM2_CH2, 16 PA2/USART2_TX/ADC2/TIM2_CH3, 17 PA3/USART2_RX/ADC3/TIM2_CH4, 18 VSS, 19 VDD, 20 PA4/SPI1_NSS/USART2_CK/ADC4, 21 PA5/SPI1_SCK/ADC5, 22 PA6/SPI1_MISO/ADC6/TIM3_CH1/TIM1_BKIN, 23 PA7/SPI1_MOSI/ADC7/TIM3_CH2/TIM1_CH1N, 24 PC4/ADC14, 25 PC5/ADC15, 26 PB0/ADC8/TIM3_CH3/TIM1_CH2N, 27 PB1/ADC9/TIM3_CH4/TIM1_CH3N, 28 PB2/BOOT1, 29 PB10/I2C2_SCL/USART3_TX/TIM2_CH3, 30 PB11/I2C2_SDA/USART3_RX/TIM2_CH4, 31 VSS, 32 VDD, 33 PB12/SPI2_NSS/I2C2_SMBAL/USART3_CK/TIM1_BKIN, 34 PB13/SPI2_SCK/USART3_CTS/TIM1_CH1N, 35 PB14/SPI2_MISO/USART3_RTS/TIM1_CH2N, 36 PB15/SPI2_MOSI/TIM1_CH3N, 37 PC6/TIM3_CH1, 38 PC7/TIM3_CH2, 39 PC8/TIM3_CH3, 40 PC9/TIM3_CH4, 41 PA8/USART1_CK/TIM1_CH1/MCO, 42 PA9/USART1_TX/TIM1_CH2, 43 PA10/USART1_RX/TIM1_CH3, 44 PA11/USART1_CTS/CANRX/USBDM/TIM1_CH4, 45 PA12/USART1_RTS/CANTX/USBDP/TIM1_ETR, 46 PA13/JTMS/SWDIO, 47 VSS, 48 VDD, 49 PA14/JTCK/SWCLK, 50 PA15/JTDI/TIM2_CH1_ETR/SPI1_NSS, 51 PC10/USART3_TX, 52 PC11/USART3_RX, 53 PC12/USART3_CK, 54 PD2/TIM3_ETR, 55 PB3/JTDO/TIM2_CH2/TRACESWO/SPI1_SCK, 56 PB4/JTRST/TIM3_CH1/SPI1_MISO, 57 PB5/I2C1_SMBAI/TIM3_CH2/SPI1_MOSI, 58 PB6/I2C1_SCL/TIM4_CH1/USART1_TX, 59 PB7/I2C1_SDA/TIM4_CH2/USART1_RX, 60 BOOT0, 61 PB8/TIM4_CH3/I2C1_SCL/CANRX, 62 PB9/TIM4_CH4/I2C1_SDA/CANTX, 63 VSS, 64 VDD

## Mcu-STM32F103RCT6(LQFP-64)
designator U?, comment STM32F103RCT6
footprint LQFP_64_L
footprint LQFP_64
footprint LQFP_64_M
pins: 1 VBAT, 2 PC13/ANTI_TAMP, 3 PC14/OSC32_IN, 4 PC15/OSC32_OUT, 5 PD0/OSC_IN, 6 PD1/OSC_OUT, 7 NRST, 8 PC0/ADC10, 9 PC1/ADC11, 10 PC2/ADC12, 11 PC3/ADC13, 12 VSSA, 13 VDDA, 14 PA0-WKUP/USART2_CTS/ADC0/TIM2_CH1_ETR, 15 PA1/USART2_RTS/ADC1/TIM2_CH2, 16 PA2/USART2_TX/ADC2/TIM2_CH3, 17 PA3/USART2_RX/ADC3/TIM2_CH4, 18 VSS, 19 VDD, 20 PA4/SPI1_NSS/USART2_CK/ADC4, 21 PA5/SPI1_SCK/ADC5, 22 PA6/SPI1_MISO/ADC6/TIM3_CH1/TIM1_BKIN, 23 PA7/SPI1_MOSI/ADC7/TIM3_CH2/TIM1_CH1N, 24 PC4/ADC14, 25 PC5/ADC15, 26 PB0/ADC8/TIM3_CH3/TIM1_CH2N, 27 PB1/ADC9/TIM3_CH4/TIM1_CH3N, 28 PB2/BOOT1, 29 PB10/I2C2_SCL/USART3_TX/TIM2_CH3, 30 PB11/I2C2_SDA/USART3_RX/TIM2_CH4, 31 VSS, 32 VDD, 33 PB12/SPI2_NSS/I2C2_SMBAL/USART3_CK/TIM1_BKIN, 34 PB13/SPI2_SCK/USART3_CTS/TIM1_CH1N, 35 PB14/SPI2_MISO/USART3_RTS/TIM1_CH2N, 36 PB15/SPI2_MOSI/TIM1_CH3N, 37 PC6/TIM3_CH1, 38 PC7/TIM3_CH2, 39 PC8/TIM3_CH3, 40 PC9/TIM3_CH4, 41 PA8/USART1_CK/TIM1_CH1/MCO, 42 PA9/USART1_TX/TIM1_CH2, 43 PA10/USART1_RX/TIM1_CH3, 44 PA11/USART1_CTS/CANRX/USBDM/TIM1_CH4, 45 PA12/USART1_RTS/CANTX/USBDP/TIM1_ETR, 46 PA13/JTMS/SWDIO, 47 VSS, 48 VDD, 49 PA14/JTCK/SWCLK, 50 PA15/JTDI/TIM2_CH1_ETR/SPI1_NSS, 51 PC10/USART3_TX, 52 PC11/USART3_RX, 53 PC12/USART3_CK, 54 PD2/TIM3_ETR, 55 PB3/JTDO/TIM2_CH2/TRACESWO/SPI1_SCK, 56 PB4/JTRST/TIM3_CH1/SPI1_MISO, 57 PB5/I2C1_SMBAI/TIM3_CH2/SPI1_MOSI, 58 PB6/I2C1_SCL/TIM4_CH1/USART1_TX, 59 PB7/I2C1_SDA/TIM4_CH2/USART1_RX, 60 BOOT0, 61 PB8/TIM4_CH3/I2C1_SCL/CANRX, 62 PB9/TIM4_CH4/I2C1_SDA/CANTX, 63 VSS, 64 VDD

## Mcu-STM32F103VET7
designator U?, comment STM32F103VET7
footprint LQFP_100_M
pins: 1 PE2, 2 PE3, 3 PE4, 4 PE5, 5 PE6, 6 VBAT, 7 PC13-TAMPER-RTC, 8 PC14-OSC32_IN, 9 PC15-OSC32_OUT, 10 VSS_5, 11 VDD_5, 12 OSC_IN, 13 OSC_OUT, 14 NRST, 15 PC0, 16 PC1, 17 PC2, 18 PC3, 19 VSSA, 20 VREF-, 21 VREF+, 22 VDDA, 23 PA0-WKUP, 24 PA1, 25 PA2, 26 PA3, 27 VSS_4, 28 VDD_4, 29 PA4, 30 PA5, 31 PA6, 32 PA7, 33 PC4, 34 PC5, 35 PB0, 36 PB1, 37 PB2, 38 PE7, 39 PE8, 40 PE9, 41 PE10, 42 PE11, 43 PE12, 44 PE13, 45 PE14, 46 PE15, 47 PB10, 48 PB11, 49 VSS_1, 50 VDD_1, 51 PB12, 52 PB13, 53 PB14, 54 PB15, 55 PD8, 56 PD9, 57 PD10, 58 PD11, 59 PD12, 60 PD13, 61 PD14, 62 PD15, 63 PC6, 64 PC7, 65 PC8, 66 PC9, 67 PA 8, 68 PA 9, 69 PA 10, 70 PA 11, 71 PA 12, 72 PA 13, 73 NC, 74 VSS_2, 75 VDD_2, 76 PA14, 77 PA15, 78 PC10, 79 PC11, 80 PC12, 81 PD0, 82 PD1, 83 PD2, 84 PD3, 85 PD4, 86 PD5, 87 PD6, 88 PD7, 89 PB3, 90 PB4, 91 PB5, 92 PB6, 93 PB7, 94 BOOT0, 95 PB8, 96 PB9, 97 PE0, 98 PE1, 99 VSS_3, 100 VDD_3

## Mcu-TM4C123GH6PMI7
designator U?, comment TM4C123GH6PMI7
footprint SOCKET-ADAPTER-OTQ-64-05-03
footprint LQFP064_FPT-64P-M03
pins: 1 PB6, 2 VDDA, 3 GNDA, 4 PB7, 5 PF4, 6 PE3, 7 PE2, 8 PE1, 9 PE0, 10 PD7, 11 VDD, 12 GND, 13 PC7, 14 PC6, 15 PC5, 16 PC4, 17 PA0/U0RX, 18 PA1/U0TX, 19 PA2/SSI0CLK, 20 PA3/SSI0Fss, 21 PA4/SSI0RX, 22 PA5/SSI0TX, 23 PA6, 24 PA7, 25 VDDC, 26 VDD, 27 GND, 28 PF0, 29 PF1, 30 PF2, 31 PF3, 32 ~{WAKE}, 33 ~{HIB}, 34 OSC0, 35 GNDX, 36 OSC1, 37 VBAT, 38 ~{RST}, 39 GND, 40 OSC0, 41 OSC1, 42 VDD, 43 PD4, 44 PD5, 45 PB0/USB0ID, 46 PB1/USB0VBus, 47 PB2/I2C0SCL, 48  , 49 PC3, 50 PC2, 51 PC1, 52 PC0, 53 PD6, 54 VDD, 55 GND, 56 VDDC, 57 PB5, 58 PB4, 59 PE4, 60 PE5, 61 PD0, 62 PD1, 63 PD2, 64 PD3

## Mcu-TM4C123GH6PZ
designator U?, comment TM4C123GH6PZ
footprint SOCKET_ENPLAS_OTQ-100-0.5-12
footprint LQFP100_FPT-100P-M05
footprint SOCKET-ADAPTER-OTQ-100-05-12
pins: 1 PD0, 2 PD1, 3 PD2, 4 PD3, 5 VDD, 6 GND, 7 VDDA, 8 VREFA+, 9 VREFA-, 10 GNDA, 11 PJ2, 12 PE3, 13 PE2, 14 PE1, 15 PE0, 16 PH0, 17 PH1, 18 PH2, 19 PH3, 20 VDD, 21 GND, 22 PC7, 23 PC6, 24 PC5, 25 PC4, 26 PA0/U0RX, 27 PA1/U0TX, 28 PA2/SSI0CLK, 29 PA3/SSI0FSS, 30 PA4/SSI0RX, 31 PA5/SSI0TX, 32 VDD, 33 GND, 34 PA6, 35 PA7, 36 PF6, 37 PF5, 38 VDDC, 39 PF4, 40 PF0, 41 PF1, 42 PF2, 43 PF3, 44 VDD, 45 GND, 46 PK3, 47 PK2, 48 PK1, 49 PK0, 50 *WAKE, 51 *HIB, 52 XOSC0, 53 GNDX, 54 XOSC1, 55 VBAT, 56 VDD, 57 GND, 58 PF7, 59 PG3, 60 PG2, 61 PG1, 62 PG0, 63 *RST, 64 GND, 65 OSC0, 66 OSC1, 67 VDD, 68 PJ0, 69 PJ1, 70 PB0/USB0ID, 71 PB1/USB0VBUS, 72 PB2/I2C0SCL, 73 PB3/I2C0SDA, 74 PG4, 75 PG5, 76 PH7, 77 PH6, 78 PH5, 79 PH4, 80 VDD, 81 GND, 82 PC3/TDO/SWO, 83 PC2/TDI, 84 PC1/TMS/SWDIO, 85 PC0/TCK/SWCLK, 86 VDDC, 87 PG6, 88 PG7, 89 PE6, 90 PE7, 91 PB5, 92 PB4, 93 VDD, 94 GND, 95 PE4, 96 PE5, 97 PD4, 98 PD5, 99 PD6, 100 PD7

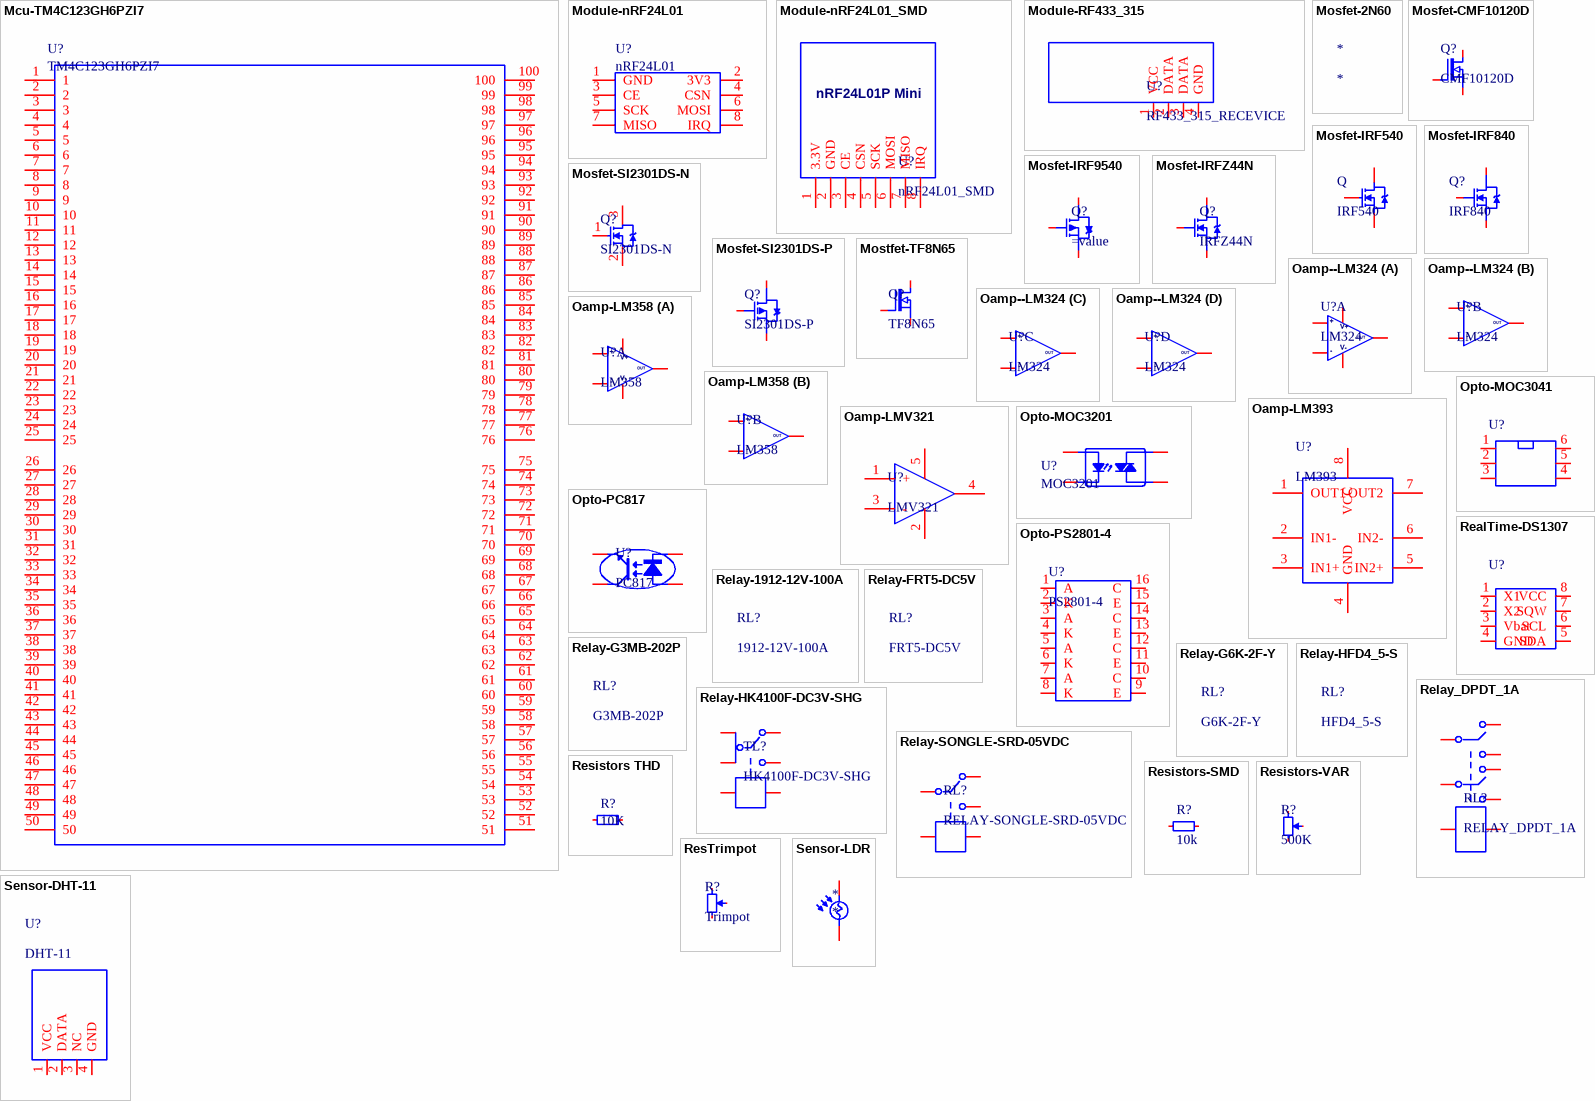
[diagram p14: symbols Mcu-TM4C123GH6PZI7 to Sensor-LDR]

## Mcu-TM4C123GH6PZI7
designator U?, comment TM4C123GH6PZI7
footprint SOCKET_QFP100
pins: 1, 2, 3, 4, 5, 6, 7, 8, 9, 10, 11, 12, 13, 14, 15, 16, 17, 18, 19, 20, 21, 22, 23, 24, 25, 26, 27, 28, 29, 30, 31, 32, 33, 34, 35, 36, 37, 38, 39, 40, 41, 42, 43, 44, 45, 46, 47, 48, 49, 50, 51, 52, 53, 54, 55, 56, 57, 58, 59, 60, 61, 62, 63, 64, 65, 66, 67, 68, 69, 70, 71, 72, 73, 74, 75, 76, 77, 78, 79, 80, 81, 82, 83, 84, 85, 86, 87, 88, 89, 90, 91, 92, 93, 94, 95, 96, 97, 98, 99, 100

## Module-nRF24L01
designator U?, comment nRF24L01
footprint nRF24L01
pins: 1 GND, 2 3V3, 3 CE, 4 CSN, 5 SCK, 6 MOSI, 7 MISO, 8 IRQ

## Module-nRF24L01_SMD
designator U?, comment nRF24L01_SMD
footprint NRF24L01Mini
pins: 1 3.3V, 2 GND, 3 CE, 4 CSN, 5 SCK, 6 MOSI, 7 MISO, 8 IRQ
text: nRF24L01P Mini

## Module-RF433_315
designator U?, comment RF433_315_RECEVICE
footprint RF433_315_RECEVICE
pins: 1 VCC, 2 DATA, 3 DATA, 4 GND

## Mosfet-2N60
designator *
footprint TO-220F
footprint TO-220F-HEAT-SINK

## Mosfet-CMF10120D
designator Q?, comment CMF10120D
VDS = 1200 V / RDS(On) = 160 mΩ / Qg = 47.1 nC
footprint TO-247
pins: 1 G, 2 D, 3 S

## Mosfet-IRF540
designator Q, comment IRF540
footprint TO263AB
pins: 1 G, 2 D, 3 S

## Mosfet-IRF840
designator Q?, comment IRF840
footprint TO-220A
footprint TO-220-HEAT-SINK-1
footprint TO-220-HEAT-SINK-2
footprint TO-220-HEAT-SINK-3
pins: 1 G, 2 D, 3 S

## Mosfet-IRF9540
designator Q?
footprint TO-220A
footprint TO-220-HEAT-SINK-1
footprint TO-220-HEAT-SINK-2
footprint TO-220-HEAT-SINK-3
pins: 1 G, 2 D, 3 S

## Mosfet-IRFZ44N
designator Q?, comment IRFZ44N
footprint TO-220A
footprint TO-220-HEAT-SINK-1
footprint TO-220-HEAT-SINK-2
footprint TO-220-HEAT-SINK-3
pins: 1 G, 2 D, 3 S

## Mosfet-SI2301DS-N
designator Q?, comment SI2301DS-N
footprint SOT23-3
pins: 1 G, 2 S, 3 D

## Mosfet-SI2301DS-P
designator Q?, comment SI2301DS-P
footprint SOT23-3
pins: 1 G, 2 S, 3 D

## Mostfet-TF8N65
designator Q?, comment TF8N65
VDS = 650V / ID (at VGS=10V) 8A / RDS(ON) (at VGS=10V) < 1.15Ω
footprint TO-220F
footprint TO-220F-HEAT-SINK
pins: 1 G, 2 D, 3 S

## Oamp--LM324
designator U?, comment LM324
Quad-Operational Amp
footprint DIP-14
footprint SOP-14
part A pins: 1 OUT, 2 -, 3 +, 4 (power), 11 (power)
part B pins: 5, 6 -, 7 OUT
part C pins: 8 OUT, 9 -, 10 +
part D pins: 12 +, 13 -, 14 OUT
part A text: V+; V-

## Oamp-LM358
designator U?, comment LM358
footprint DIP-8
part A pins: 1 OUT, 2 -, 3 +, 4 (power), 8 (power)
part B pins: 5, 6 -, 7 OUT
part A text: V+; V-

## Oamp-LM393
designator U?, comment LM393
footprint SOIC08_1.27_6.0
pins: 1 OUT1, 2 IN1-, 3 IN1+, 4 GND, 5 IN2+, 6 IN2-, 7 OUT2, 8 VCC

## Oamp-LMV321
designator U?, comment LMV321
footprint SOT23-5
pins: 1 +, 2, 3 -, 4, 5 (power)

## Opto-MOC3041
designator U?, comment NC  (value not drawn)
footprint DIP6_White
pins: 1 A, 2 K, 3 NC, 4 MAIN TERMINAL, 5, 6 MAIN TERMINAL

## Opto-MOC3201
designator U?, comment MOC3201
footprint SOP-6
pins: 1, 2, 4, 6

## Opto-PC817
designator U?, comment PC817
footprint PC817-DIP
footprint PC817-SMD
pins: 1 A "Anode", 2 K "Cathode", 3 E "Emitter", 4 C "Collector"

## Opto-PS2801-4
designator U?, comment PS2801-4
footprint SOP-16
pins: 1 A, 2 K, 3 A, 4 K, 5 A, 6 K, 7 A, 8 K, 9 E, 10 C, 11 E, 12 C, 13 E, 14 C, 15 E, 16 C

## RealTime-DS1307
designator U?, comment RealTime  (value not drawn)
footprint SOIC08_1.27_6.0
pins: 1 X1, 2 X2, 3 Vbat, 4 GND, 5 SDA, 6 SCL, 7 SQW, 8 VCC

## Relay-1912-12V-100A
designator RL?, comment 1912-12V-100A
footprint RELAY-1912-12V-100A

## Relay-FRT5-DC5V
designator RL?, comment FRT5-DC5V
footprint RELAY-FRT5-DC5V

## Relay-G3MB-202P
designator RL?, comment G3MB-202P
footprint RELAY-G3MB-202P

## Relay-G6K-2F-Y
designator RL?, comment G6K-2F-Y
footprint RELAY-G6K-2F-Y

## Relay-HFD4_5-S
designator RL?, comment HFD4_5-S
footprint RELAY-HFD4_5-S

## Relay-HK4100F-DC3V-SHG
designator TL?, comment HK4100F-DC3V-SHG
footprint RELAY-HK4100F-DC3V-SHG
pins: 1, 2, 3, 4, 5, 6

## Relay-SONGLE-SRD-05VDC
designator RL?, comment RELAY-SONGLE-SRD-05VDC
footprint RELAY-SONGLE-SRD-05VDC_BLUE
pins: 1, 2, 3, 4, 5

## Relay_DPDT_1A
designator RL?, comment RELAY_DPDT_1A
footprint RELAY_DPDT_1A
pins: 1, 2, 3, 4, 5, 6, 7, 8

## Resistors THD
designator R?, comment 10K
footprint RES-2W-H
footprint RES-5W-H
footprint RES-1W-H
footprint RES-1W-V
footprint RES-2W-V
footprint RES-0.5W-H
footprint RES-0.5W-V
footprint RES-3W-H
footprint RES-3W-V
footprint RES-5W-V
footprint RES-0.25W-H
footprint RES-0.25W-V
pins: 1, 2

## Resistors-SMD
designator R?, comment 10k
footprint R0603
footprint R0805
footprint R1206
footprint R2010
footprint R2512
pins: 1, 2

## Resistors-VAR
designator R?, comment 500K
Bourns 3296 pot
footprint RM-065
footprint 3296W
pins: 1 +, 2 W, 3 -

## ResTrimpot
designator R?, comment Trimpot
footprint Trimpot 3296W
footprint Trimpot 3296X
footprint Trimpot 3362P
footprint Trimpot 3386F
footprint Trimpot 3386H
footprint Trimpot Horiz 5mm
footprint Trimpot Vertical 5mm
pins: 1 +, 2 W, 3 -

## Sensor-DHT-11
designator U?, comment DHT-11
footprint DHT-11
pins: 1 VCC, 2 DATA, 3 NC, 4 GND

## Sensor-LDR
designator *
footprint LDR_CELL_THRU_HOLE
pins: 1, 2

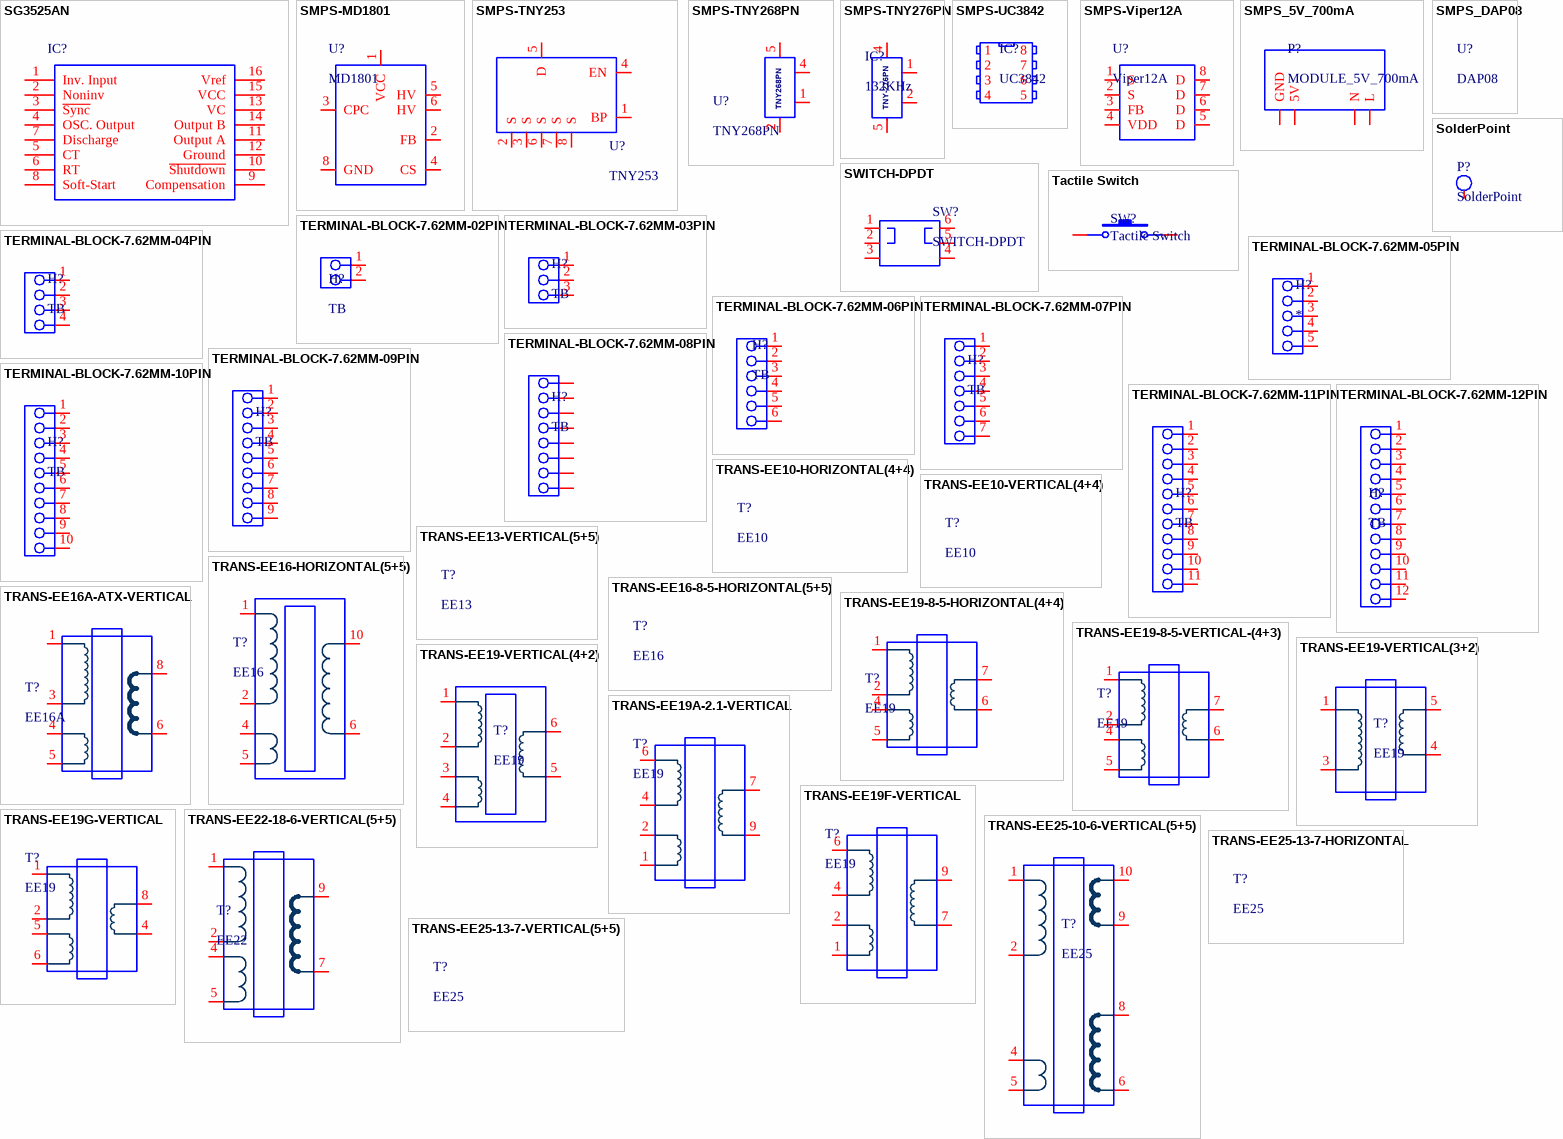
[diagram p15: symbols SG3525AN to TRANS-EE25-13-7-VERTICAL(5+5)]

## SG3525AN
designator IC?, comment Pulse width modulator control circuits  (value not drawn)
footprint SO16
pins: 1 Inv. Input, 2 Noninv, 3 ~{Sync}, 4 OSC. Output, 5 CT, 6 RT, 7 Discharge, 8 Soft-Start, 9 Compensation, 10 ~{Shutdown}, 11 Output A, 12 Ground, 13 VC, 14 Output B, 15 VCC, 16 Vref

## SMPS-MD1801
designator U?, comment MD1801
Power Switching IC
footprint SOIC-7
pins: 1 VCC, 2 FB, 3 CPC, 4 CS, 5 HV, 6 HV, 8 GND

## SMPS-TNY253
designator U?, comment TNY253
TinySwitch-I Family 44KHz
footprint SOIC08_1.27_6.0
footprint DIP-8
pins: 1 BP, 2 S, 3 S, 4 EN, 5 D, 6 S, 7 S, 8 S

## SMPS-TNY268PN
designator U?, comment TNY268PN
TinySwitch-II Family 132KHz
footprint DIP8-TNY268
pins: 1, 2, 4, 5

## SMPS-TNY276PN
designator IC?, comment 132KHz
TinySwitch-III Family 132KHz
footprint TNY-276PN-DIP-8C
pins: 1, 2, 4, 5
text: TNY-276PN

## SMPS-UC3842
designator IC?, comment UC3842
Operating Frequency up to 500KHz
footprint DIP-8
pins: 1, 2, 3, 4, 5, 6, 7, 8

## SMPS-Viper12A
designator U?, comment Viper12A
60KHz Switching
footprint DIP-8
footprint SOIC08_1.27_6.0
pins: 1 S, 2 S, 3 FB, 4 VDD, 5 D, 6 D, 7 D, 8 D

## SMPS_5V_700mA
designator P?, comment MODULE_5V_700mA
footprint MODULE_5V_700mA
pins: 1 L, 2 N, 3 5V, 4 GND

## SMPS_DAP08
designator U?, comment DAP08
footprint SOIC08_1.27_6.0

## SolderPoint
designator P?
footprint SolderPoint
pins: 1

## SWITCH-DPDT
designator SW?
footprint SWITCH 8.5x8.5 6 PINS
footprint SWITCH 5.8x5.8 6 PINS
pins: 1, 2, 3, 4, 5, 6

## Tactile Switch
designator SW?
footprint Tactile_3x6x2.5mm
pins: 1, 2

## TERMINAL-BLOCK-7.62MM-02PIN
designator H?, comment TB
footprint TERMINAL-BLOCK-7.62MM -02PIN
pins: 1, 2

## TERMINAL-BLOCK-7.62MM-03PIN
designator H?, comment TB
footprint TERMINAL-BLOCK-7.62MM -03PIN
pins: 1, 2, 3

## TERMINAL-BLOCK-7.62MM-04PIN
designator H?, comment TB
footprint TERMINAL-BLOCK-7.62MM -04PIN
pins: 1, 2, 3, 4

## TERMINAL-BLOCK-7.62MM-05PIN
designator H?
footprint TERMINAL-BLOCK-7.62MM -05PIN
pins: 1, 2, 3, 4, 5

## TERMINAL-BLOCK-7.62MM-06PIN
designator H?, comment TB
footprint TERMINAL-BLOCK-7.62MM -06PIN
pins: 1, 2, 3, 4, 5, 6

## TERMINAL-BLOCK-7.62MM-07PIN
designator H?, comment TB
footprint TERMINAL-BLOCK-7.62MM -07PIN
pins: 1, 2, 3, 4, 5, 6, 7

## TERMINAL-BLOCK-7.62MM-08PIN
designator H?, comment TB
footprint TERMINAL-BLOCK-7.62MM -08PIN
pins: 1, 2, 3, 4, 5, 6, 7, 8

## TERMINAL-BLOCK-7.62MM-09PIN
designator H?, comment TB
footprint TERMINAL-BLOCK-7.62MM -09PIN
pins: 1, 2, 3, 4, 5, 6, 7, 8, 9

## TERMINAL-BLOCK-7.62MM-10PIN
designator H?, comment TB
footprint TERMINAL-BLOCK-7.62MM -10PIN
pins: 1, 2, 3, 4, 5, 6, 7, 8, 9, 10

## TERMINAL-BLOCK-7.62MM-11PIN
designator H?, comment TB
footprint TERMINAL-BLOCK-7.62MM -11PIN
pins: 1, 2, 3, 4, 5, 6, 7, 8, 9, 10, 11

## TERMINAL-BLOCK-7.62MM-12PIN
designator H?, comment TB
footprint TERMINAL-BLOCK-7.62MM -12PIN
pins: 1, 2, 3, 4, 5, 6, 7, 8, 9, 10, 11, 12

## TRANS-EE10-HORIZONTAL(4+4)
designator T?, comment EE10
footprint TRANSFORMER-EE10-HORIZONTAL(4+4)

## TRANS-EE10-VERTICAL(4+4)
designator T?, comment EE10
footprint TRANSFORMER-EE10-VERTICAL(4+4)

## TRANS-EE13-VERTICAL(5+5)
designator T?, comment EE13
footprint TRANSFORMER-EE13-VERTICAL(5+5)

## TRANS-EE16-8-5-HORIZONTAL(5+5)
designator T?, comment EE16
footprint TRANSFORMER-EE16-8-5-HORIZONTAL(5+5)

## TRANS-EE16-HORIZONTAL(5+5)
designator T?, comment EE16
footprint TRANSFORMERS-EE16(5+5)-H
pins: 1, 2, 4, 5, 6, 10

## TRANS-EE16A-ATX-VERTICAL
designator T?, comment EE16A
footprint TRANSFORMER-EE16A
pins: 1, 3, 4, 5, 6, 8

## TRANS-EE19-8-5-HORIZONTAL(4+4)
designator T?, comment EE19
footprint TRANSFORMER-EE19-8-5-HORIZONTAL(4+4)
pins: 1, 2, 4, 5, 6, 7

## TRANS-EE19-8-5-VERTICAL-(4+3)
designator T?, comment EE19
footprint TRANSFORMER-EE19-8-5-VERTICAL-(4+3)
pins: 1, 2, 4, 5, 6, 7

## TRANS-EE19-VERTICAL(3+2)
designator T?, comment EE19
footprint TRANSFORMER-EE19(3+2)
pins: 1, 3, 4, 5

## TRANS-EE19-VERTICAL(4+2)
designator T?, comment EE19
footprint TRANSFORMER-EE19(4+2)
pins: 1, 2, 3 1, 4, 5, 6

## TRANS-EE19A-2.1-VERTICAL
designator T?, comment EE19
footprint TRANSFORMER-EE19A-2.1
pins: 1, 2, 4, 6 61, 7, 9

## TRANS-EE19F-VERTICAL
designator T?, comment EE19
footprint TRANSFORMER-EE19F
pins: 1, 2, 4, 6 61, 7, 9

## TRANS-EE19G-VERTICAL
designator T?, comment EE19
footprint TRANSFORMER-EE19G
pins: 1, 2, 4, 5, 6, 8

## TRANS-EE22-18-6-VERTICAL(5+5)
designator T?, comment EE22
footprint TRANSFORMER-EE22-VERTICAL(5+5)
pins: 1, 2, 4, 5, 7, 9

## TRANS-EE25-10-6-VERTICAL(5+5)
designator T?, comment EE25
footprint TRANSFORMER-EE25-10-6-VERTICAL(5+5)
pins: 1, 2, 4, 5 6, 6, 8, 9, 10

## TRANS-EE25-13-7-HORIZONTAL
designator T?, comment EE25
footprint TRANSFORMER-EE25-13-7-HORIZONTAL

## TRANS-EE25-13-7-VERTICAL(5+5)
designator T?, comment EE25
footprint TRANSFORMER-EE25-13-7-VERTICAL(5+5)
footprint TRANSFORMER-EE25-13-7-VERTICAL

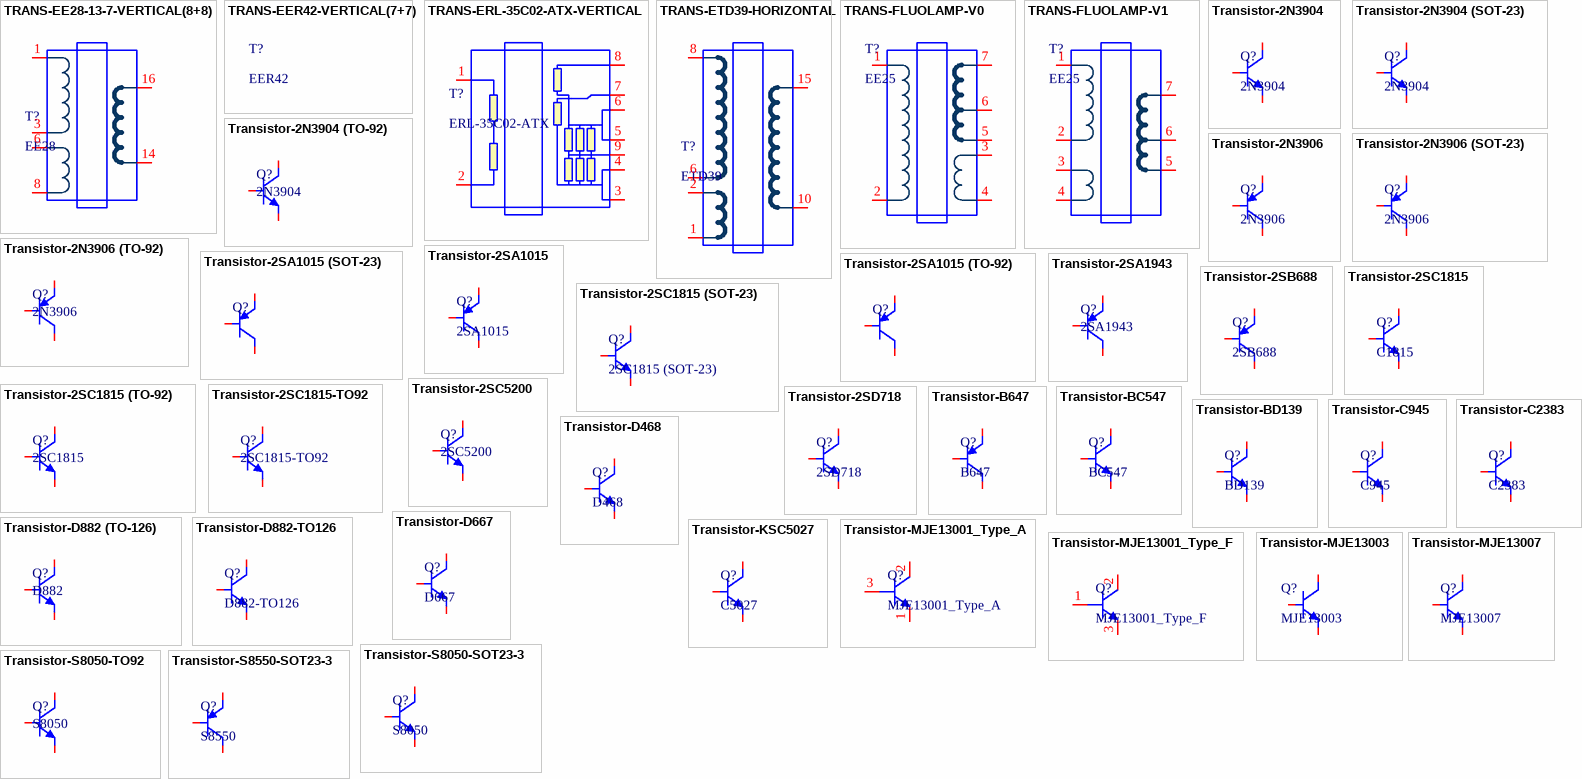
[diagram p16: symbols TRANS-EE28-13-7-VERTICAL(8+8) to Transistor-S8550-SOT23-3]

## TRANS-EE28-13-7-VERTICAL(8+8)
designator T?, comment EE28
footprint TRANSFORMER-EE28-VERTICAL(8+8)
pins: 1, 3, 6, 8, 14, 16

## TRANS-EER42-VERTICAL(7+7)
designator T?, comment EER42
footprint TRANSFORMER-EER42-VERTICAL(7+7)

## TRANS-ERL-35C02-ATX-VERTICAL
designator T?, comment ERL-35C02-ATX
footprint TRANSFORMER-ERL-35C02-ATX
pins: 1, 2, 3, 4, 5, 6, 7, 8, 9

## TRANS-ETD39-HORIZONTAL
designator T?, comment ETD39
footprint TRANSFORMER-ETD39-HORIZONTAL
pins: 1, 2, 6, 8, 10, 15

## TRANS-FLUOLAMP-V0
designator T?, comment EE25
footprint TRANSFORMER-FLUOLAMP-8W
pins: 1, 2, 3, 4, 5, 6, 7

## TRANS-FLUOLAMP-V1
designator T?, comment EE25
TRANS-FLUOLAMP-V1
footprint TRANSFORMER-FLUOLAMP-8W
pins: 1, 2, 3, 4, 5, 6, 7

## Transistor-2N3904
designator Q?, comment 2N3904
footprint SOT23-3
footprint SOT223-3
pins: 1 B, 2 E, 3 C

## Transistor-2N3904 (SOT-23)
designator Q?, comment 2N3904
footprint SOT23-3
pins: 1 B, 2 E, 3 C

## Transistor-2N3904 (TO-92)
designator Q?, comment 2N3904
footprint TO-92
pins: 1 E, 2 B, 3 C

## Transistor-2N3906
designator Q?, comment 2N3906
footprint SOT23-3
pins: 1 B, 2 E, 3 C

## Transistor-2N3906 (SOT-23)
designator Q?, comment 2N3906
footprint SOT23-3
pins: 1 B, 2 E, 3 C

## Transistor-2N3906 (TO-92)
designator Q?, comment 2N3906
footprint TO-92
pins: 1 E, 2 B, 3 C

## Transistor-2SA1015
designator Q?, comment 2SA1015
footprint SOT23-3
pins: 1 B, 2 E, 3 C

## Transistor-2SA1015 (SOT-23)
designator Q?, comment 2SA1015  (value not drawn)
footprint SOT23-3
pins: 1 B, 2 E, 3 C

## Transistor-2SA1015 (TO-92)
designator Q?, comment 2SA1015  (value not drawn)
footprint TO-92
pins: 1 E, 2 C, 3 B

## Transistor-2SA1943
designator Q?, comment 2SA1943
footprint TO-264
pins: 1 B, 2 C, 3 E

## Transistor-2SB688
designator Q?, comment 2SB688
footprint TO-3P
pins: 1 B, 2 C, 3 E

## Transistor-2SC1815
designator Q?, comment C1815
footprint SOT23-3
pins: 1 B, 2 E, 3 C

## Transistor-2SC1815 (SOT-23)
designator Q?, comment 2SC1815 (SOT-23)
footprint SOT23-3
pins: 1 B, 2 E, 3 C

## Transistor-2SC1815 (TO-92)
designator Q?, comment 2SC1815
footprint TO-92
pins: 1 E, 2 C, 3 B

## Transistor-2SC1815-TO92
designator Q?, comment 2SC1815-TO92
footprint TO-92
pins: 1 E, 2 C, 3 B

## Transistor-2SC5200
designator Q?, comment 2SC5200
footprint TO-264
pins: 1 B, 2 C, 3 E

## Transistor-2SD718
designator Q?, comment 2SD718
footprint TO-3P
pins: 1 B, 2 C, 3 E

## Transistor-B647
designator Q?, comment B647
footprint TO-92
pins: 1 E, 2 C, 3 B

## Transistor-BC547
designator Q?, comment BC547
VCEO: 45 Vdc / VCBO: 50 Vdc / VEBO: 6.0 Vdc
footprint TO-92
pins: 1 C, 2 B, 3 E

## Transistor-BD139
designator Q?, comment BD139
footprint TO-126
pins: 1 E, 2 C, 3 B

## Transistor-C945
designator Q?, comment C945
footprint TO-92
pins: 1 E, 2 C, 3 B

## Transistor-C2383
designator Q?, comment C2383
footprint TO-92L
pins: 1 E, 2 C, 3 B

## Transistor-D468
designator Q?, comment D468
footprint TO-92L
pins: 1 E, 2 C, 3 B

## Transistor-D667
designator Q?, comment D667
footprint TO-92
pins: 1 E, 2 C, 3 B

## Transistor-D882 (TO-126)
designator Q?, comment D882
footprint TO-126
pins: 1 E, 2 C, 3 B

## Transistor-D882-TO126
designator Q?, comment D882-TO126
footprint TO-126
pins: 1 E, 2 C, 3 B

## Transistor-KSC5027
designator Q?, comment C5027
Type - NPN / Collector-Emitter Voltage: 800 V / Collector-Base Voltage: 1100 V / Emitter-Base Voltage: 7 V / Collector Current: 3 A / Collector Dissipation - 50 W / DC Current Gain (hfe) - 15 to 30 / Transition Frequency - 15 MHz / Operating and Storage Junction Temperature Range -55 to +150 °C / Package - TO-220
footprint TO-220-HEAT-SINK-1
footprint TO-220-HEAT-SINK-2
footprint TO-220-HEAT-SINK-3
footprint TO-220A
pins: 1 B, 2 C, 3 E

## Transistor-MJE13001_Type_A
designator Q?, comment MJE13001_Type_A
footprint TO-92
pins: 1 E, 2 C, 3 B

## Transistor-MJE13001_Type_F
designator Q?, comment MJE13001_Type_F
footprint TO-92
pins: 1 B, 2 C, 3 E

## Transistor-MJE13003
designator Q?, comment MJE13003
footprint TO-126
pins: 1 B, 2 C, 3 E

## Transistor-MJE13007
designator Q?, comment MJE13007
footprint TO-220-HEAT-SINK-1
footprint TO-220-HEAT-SINK-2
footprint TO-220-HEAT-SINK-3
footprint TO-220A
pins: 1 B, 2 C, 3 E

## Transistor-S8050-SOT23-3
designator Q?, comment S8050
footprint SOT23-3
pins: 1 B, 2 E, 3 C

## Transistor-S8050-TO92
designator Q?, comment S8050
footprint TO-92
pins: 1 E, 2 B, 3 C

## Transistor-S8550-SOT23-3
designator Q?, comment S8550
footprint SOT23-3
pins: 1 B, 2 E, 3 C

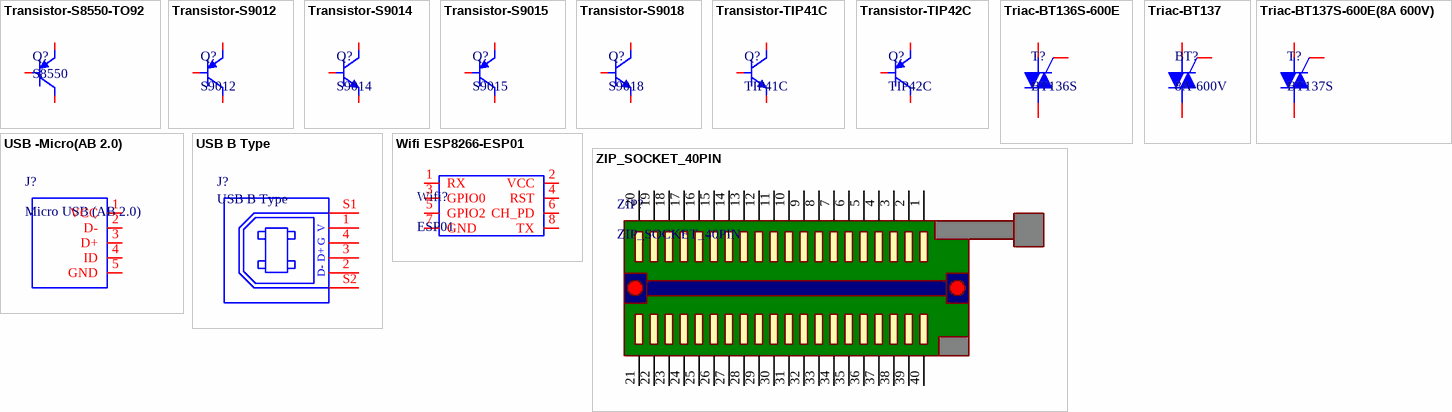
[diagram p17: symbols Transistor-S8550-TO92 to ZIP_SOCKET_40PIN]

## Transistor-S8550-TO92
designator Q?, comment S8550
footprint TO-92
pins: 1 E, 2 B, 3 C

## Transistor-S9012
designator Q?, comment S9012
footprint TO-92
pins: 1 E, 2 B, 3 C

## Transistor-S9014
designator Q?, comment S9014
footprint TO-92
pins: 1 E, 2 B, 3 C

## Transistor-S9015
designator Q?, comment S9015
footprint TO-92
pins: 1 E, 2 B, 3 C

## Transistor-S9018
designator Q?, comment S9018
footprint SOT23-3
pins: 1 B, 2 E, 3 C

## Transistor-TIP41C
designator Q?, comment TIP41C
footprint TO-220A
pins: 1 B, 2 C, 3 E

## Transistor-TIP42C
designator Q?, comment TIP42C
footprint TO-220A
pins: 1 B, 2 C, 3 E

## Triac-BT136S-600E
designator T?, comment BT136S
footprint TO252-3
pins: 1 T1, 2 T2, 3 G

## Triac-BT137
designator BT?, comment 8A-600V
footprint TO-220A
footprint TO-220-HEAT-SINK-1
footprint TO-220-HEAT-SINK-2
footprint TO-220-HEAT-SINK-3
pins: 1 T1, 2 T2, 3 G

## Triac-BT137S-600E(8A 600V)
designator T?, comment BT137S
footprint TO252-3
pins: 1 T1, 2 T2, 3 G

## USB -Micro(AB 2.0)
designator J?, comment Micro USB (AB 2.0)
footprint Micro USB (AB 2.0)
footprint Micro USB 01
pins: 1 VCC, 2 D-, 3 D+, 4 ID, 5 GND

## USB B Type
designator J?
footprint USB-B-TYPE
pins: 1, 2, 3, 4, S1, S2
text: V; G; D+; D-

## Wifi ESP8266-ESP01
designator Wifi?, comment ESP01
footprint ESP8266 ESP-01
pins: 1 RX, 2 VCC, 3 GPIO0, 4 RST, 5 GPIO2, 6 CH_PD, 7 GND, 8 TX

## ZIP_SOCKET_40PIN
designator ZIP?
footprint ZIP_SOCKET_40PIN
pins: 1, 2, 3, 4, 5, 6, 7, 8, 9, 10, 11, 12, 13, 14, 15, 16, 17, 18, 19, 20, 21, 22, 23, 24, 25, 26, 27, 28, 29, 30, 31, 32, 33, 34, 35, 36, 37, 38, 39, 40